# Altium schematic symbol library TI Stellaris.SchLib: 293 symbols (part 3 of 7)
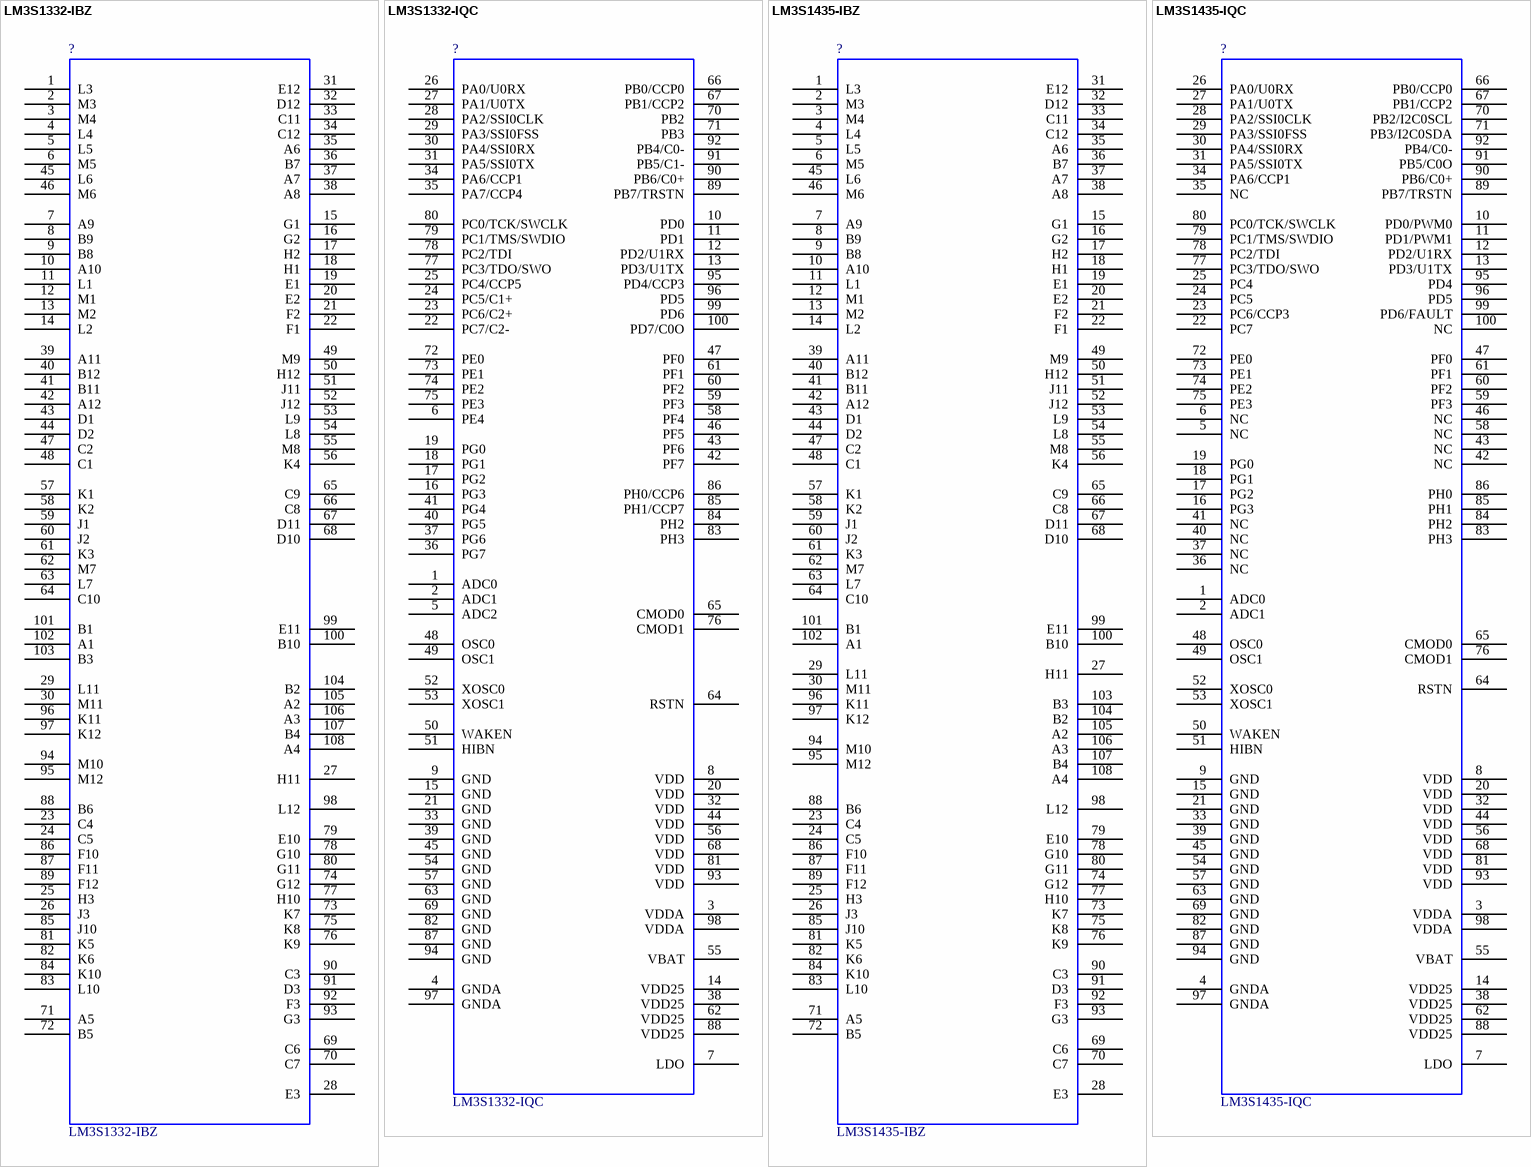
[diagram p71: symbols LM3S1332-IBZ to LM3S1435-IQC]

## LM3S1332-IBZ
designator ?  Comment_1: LM3S1332-IBZ  (hidden comment: *)
Stellaris ARM Cortex-M3 Microcontroller; Manufacturer #1: Luminary Micro; LMI Class: Fury; Designator: U; Part Number: LM3S1332-IBZ
footprint BGA108C80P12X12_1000X1000X150
pins: 1 L3, 2 M3, 3 M4, 4 L4, 5 L5, 6 M5, 7 A9, 8 B9, 9 B8, 10 A10, 11 L1, 12 M1, 13 M2, 14 L2, 15 G1, 16 G2, 17 H2, 18 H1, 19 E1, 20 E2, 21 F2, 22 F1, 23 C4, 24 C5, 25 H3, 26 J3, 27 H11, 28 E3, 29 L11, 30 M11, 31 E12, 32 D12, 33 C11, 34 C12, 35 A6, 36 B7, 37 A7, 38 A8, 39 A11, 40 B12, 41 B11, 42 A12, 43 D1, 44 D2, 45 L6, 46 M6, 47 C2, 48 C1, 49 M9, 50 H12, 51 J11, 52 J12, 53 L9, 54 L8, 55 M8, 56 K4, 57 K1, 58 K2, 59 J1, 60 J2, 61 K3, 62 M7, 63 L7, 64 C10, 65 C9, 66 C8, 67 D11, 68 D10, 69 C6, 70 C7, 71 A5, 72 B5, 73 K7, 74 G12, 75 K8, 76 K9, 77 H10, 78 G10, 79 E10, 80 G11, 81 K5, 82 K6, 83 L10, 84 K10, 85 J10, 86 F10, 87 F11, 88 B6, 89 F12, 90 C3, 91 D3, 92 F3, 93 G3, 94 M10, 95 M12, 96 K11, 97 K12, 98 L12, 99 E11, 100 B10, 101 B1, 102 A1, 103 B3, 104 B2, 105 A2, 106 A3, 107 B4, 108 A4

## LM3S1332-IQC
designator ?  Comment_1: LM3S1332-IQC  (hidden comment: *)
Stellaris ARM Cortex-M3 Microcontroller; Manufacturer #1: Luminary Micro; LMI Class: Fury; Designator: U; Part Number: LM3S1332-IQC
footprint QFP50P1600X1600X160-100N
pins: 1 ADC0, 2 ADC1, 3 VDDA, 4 GNDA, 5 ADC2, 6 PE4, 7 LDO, 8 VDD, 9 GND, 10 PD0, 11 PD1, 12 PD2/U1RX, 13 PD3/U1TX, 14 VDD25, 15 GND, 16 PG3, 17 PG2, 18 PG1, 19 PG0, 20 VDD, 21 GND, 22 PC7/C2-, 23 PC6/C2+, 24 PC5/C1+, 25 PC4/CCP5, 26 PA0/U0RX, 27 PA1/U0TX, 28 PA2/SSI0CLK, 29 PA3/SSI0FSS, 30 PA4/SSI0RX, 31 PA5/SSI0TX, 32 VDD, 33 GND, 34 PA6/CCP1, 35 PA7/CCP4, 36 PG7, 37 PG6, 38 VDD25, 39 GND, 40 PG5, 41 PG4, 42 PF7, 43 PF6, 44 VDD, 45 GND, 46 PF5, 47 PF0, 48 OSC0, 49 OSC1, 50 WAKEN, 51 HIBN, 52 XOSC0, 53 XOSC1, 54 GND, 55 VBAT, 56 VDD, 57 GND, 58 PF4, 59 PF3, 60 PF2, 61 PF1, 62 VDD25, 63 GND, 64 RSTN, 65 CMOD0, 66 PB0/CCP0, 67 PB1/CCP2, 68 VDD, 69 GND, 70 PB2, 71 PB3, 72 PE0, 73 PE1, 74 PE2, 75 PE3, 76 CMOD1, 77 PC3/TDO/SWO, 78 PC2/TDI, 79 PC1/TMS/SWDIO, 80 PC0/TCK/SWCLK, 81 VDD, 82 GND, 83 PH3, 84 PH2, 85 PH1/CCP7, 86 PH0/CCP6, 87 GND, 88 VDD25, 89 PB7/TRSTN, 90 PB6/C0+, 91 PB5/C1-, 92 PB4/C0-, 93 VDD, 94 GND, 95 PD4/CCP3, 96 PD5, 97 GNDA, 98 VDDA, 99 PD6, 100 PD7/C0O

## LM3S1435-IBZ
designator ?  Comment_1: LM3S1435-IBZ  (hidden comment: *)
Stellaris ARM Cortex-M3 Microcontroller; Manufacturer #1: Luminary Micro; LMI Class: Fury; Designator: U; Part Number: LM3S1435-IBZ
footprint BGA108C80P12X12_1000X1000X150
pins: 1 L3, 2 M3, 3 M4, 4 L4, 5 L5, 6 M5, 7 A9, 8 B9, 9 B8, 10 A10, 11 L1, 12 M1, 13 M2, 14 L2, 15 G1, 16 G2, 17 H2, 18 H1, 19 E1, 20 E2, 21 F2, 22 F1, 23 C4, 24 C5, 25 H3, 26 J3, 27 H11, 28 E3, 29 L11, 30 M11, 31 E12, 32 D12, 33 C11, 34 C12, 35 A6, 36 B7, 37 A7, 38 A8, 39 A11, 40 B12, 41 B11, 42 A12, 43 D1, 44 D2, 45 L6, 46 M6, 47 C2, 48 C1, 49 M9, 50 H12, 51 J11, 52 J12, 53 L9, 54 L8, 55 M8, 56 K4, 57 K1, 58 K2, 59 J1, 60 J2, 61 K3, 62 M7, 63 L7, 64 C10, 65 C9, 66 C8, 67 D11, 68 D10, 69 C6, 70 C7, 71 A5, 72 B5, 73 K7, 74 G12, 75 K8, 76 K9, 77 H10, 78 G10, 79 E10, 80 G11, 81 K5, 82 K6, 83 L10, 84 K10, 85 J10, 86 F10, 87 F11, 88 B6, 89 F12, 90 C3, 91 D3, 92 F3, 93 G3, 94 M10, 95 M12, 96 K11, 97 K12, 98 L12, 99 E11, 100 B10, 101 B1, 102 A1, 103 B3, 104 B2, 105 A2, 106 A3, 107 B4, 108 A4

## LM3S1435-IQC
designator ?  Comment_1: LM3S1435-IQC  (hidden comment: *)
Stellaris ARM Cortex-M3 Microcontroller; Manufacturer #1: Luminary Micro; LMI Class: Fury; Designator: U; Part Number: LM3S1435-IQC
footprint QFP50P1600X1600X160-100N
pins: 1 ADC0, 2 ADC1, 3 VDDA, 4 GNDA, 5 NC, 6 NC, 7 LDO, 8 VDD, 9 GND, 10 PD0/PWM0, 11 PD1/PWM1, 12 PD2/U1RX, 13 PD3/U1TX, 14 VDD25, 15 GND, 16 PG3, 17 PG2, 18 PG1, 19 PG0, 20 VDD, 21 GND, 22 PC7, 23 PC6/CCP3, 24 PC5, 25 PC4, 26 PA0/U0RX, 27 PA1/U0TX, 28 PA2/SSI0CLK, 29 PA3/SSI0FSS, 30 PA4/SSI0RX, 31 PA5/SSI0TX, 32 VDD, 33 GND, 34 PA6/CCP1, 35 NC, 36 NC, 37 NC, 38 VDD25, 39 GND, 40 NC, 41 NC, 42 NC, 43 NC, 44 VDD, 45 GND, 46 NC, 47 PF0, 48 OSC0, 49 OSC1, 50 WAKEN, 51 HIBN, 52 XOSC0, 53 XOSC1, 54 GND, 55 VBAT, 56 VDD, 57 GND, 58 NC, 59 PF3, 60 PF2, 61 PF1, 62 VDD25, 63 GND, 64 RSTN, 65 CMOD0, 66 PB0/CCP0, 67 PB1/CCP2, 68 VDD, 69 GND, 70 PB2/I2C0SCL, 71 PB3/I2C0SDA, 72 PE0, 73 PE1, 74 PE2, 75 PE3, 76 CMOD1, 77 PC3/TDO/SWO, 78 PC2/TDI, 79 PC1/TMS/SWDIO, 80 PC0/TCK/SWCLK, 81 VDD, 82 GND, 83 PH3, 84 PH2, 85 PH1, 86 PH0, 87 GND, 88 VDD25, 89 PB7/TRSTN, 90 PB6/C0+, 91 PB5/C0O, 92 PB4/C0-, 93 VDD, 94 GND, 95 PD4, 96 PD5, 97 GNDA, 98 VDDA, 99 PD6/FAULT, 100 NC

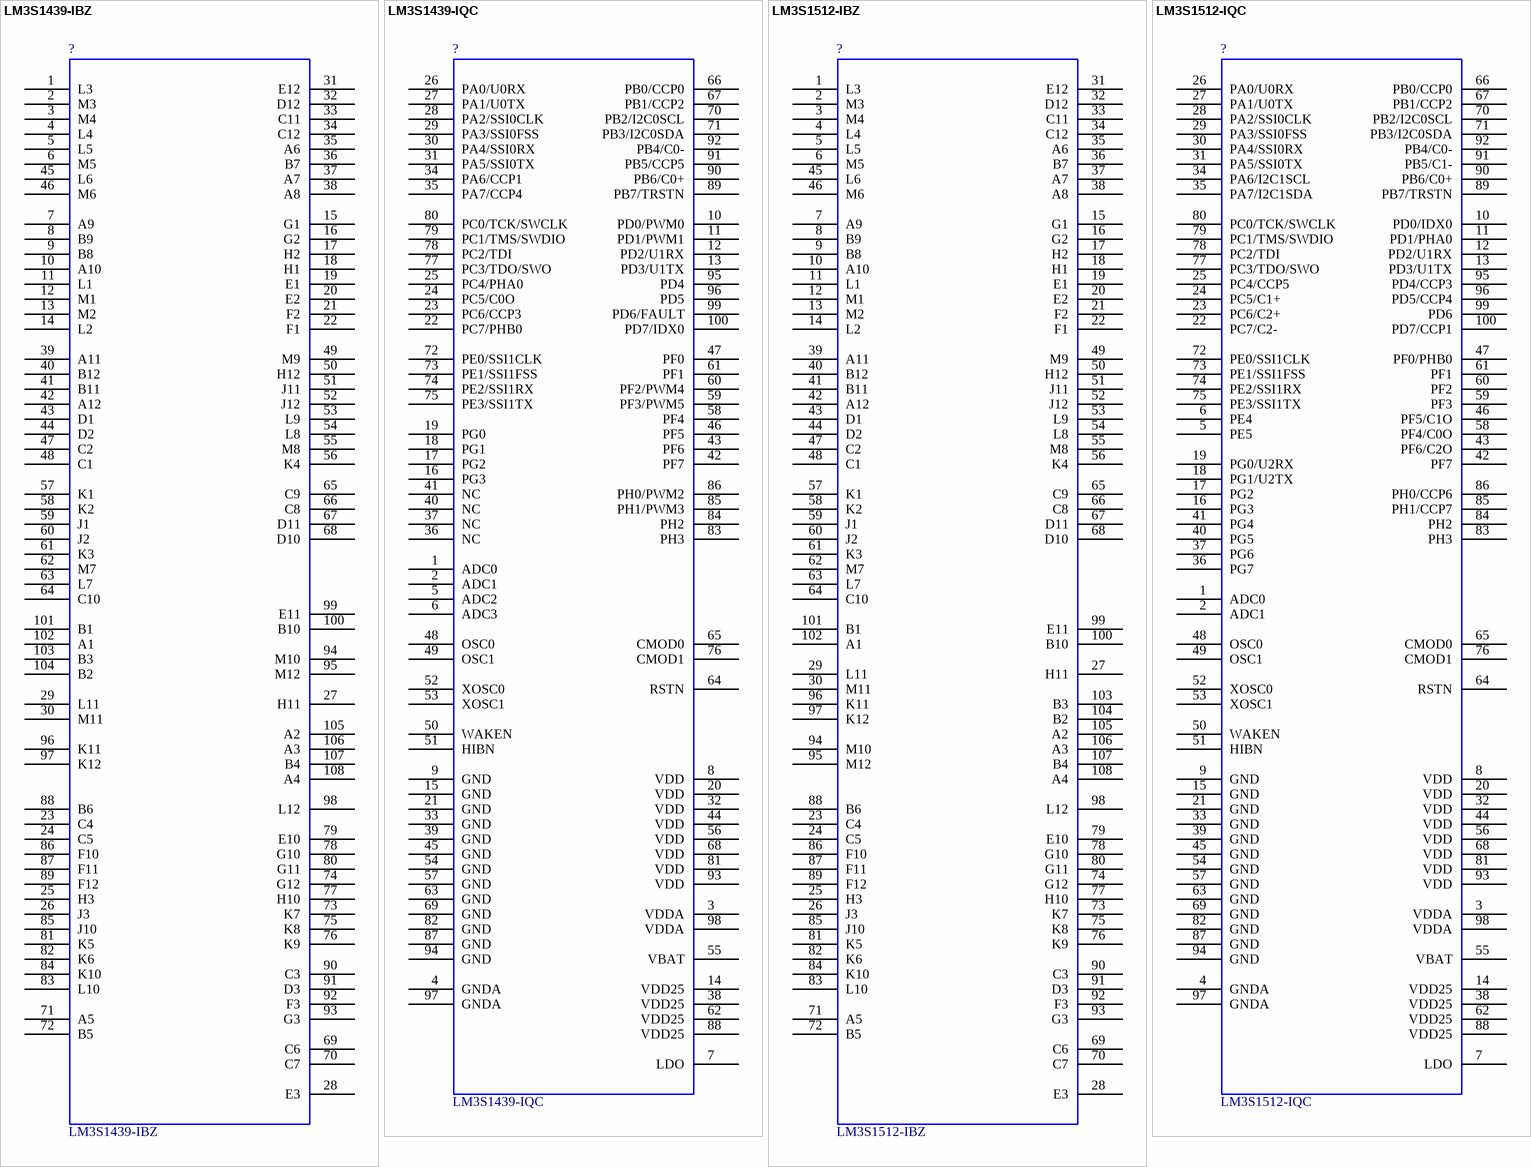
[diagram p23: symbols LM3S1439-IBZ to LM3S1512-IQC]

## LM3S1439-IBZ
designator ?  Comment_1: LM3S1439-IBZ  (hidden comment: *)
Stellaris ARM Cortex-M3 Microcontroller; Manufacturer #1: Luminary Micro; LMI Class: Fury; Designator: U; Part Number: LM3S1439-IBZ
footprint BGA108C80P12X12_1000X1000X150
pins: 1 L3, 2 M3, 3 M4, 4 L4, 5 L5, 6 M5, 7 A9, 8 B9, 9 B8, 10 A10, 11 L1, 12 M1, 13 M2, 14 L2, 15 G1, 16 G2, 17 H2, 18 H1, 19 E1, 20 E2, 21 F2, 22 F1, 23 C4, 24 C5, 25 H3, 26 J3, 27 H11, 28 E3, 29 L11, 30 M11, 31 E12, 32 D12, 33 C11, 34 C12, 35 A6, 36 B7, 37 A7, 38 A8, 39 A11, 40 B12, 41 B11, 42 A12, 43 D1, 44 D2, 45 L6, 46 M6, 47 C2, 48 C1, 49 M9, 50 H12, 51 J11, 52 J12, 53 L9, 54 L8, 55 M8, 56 K4, 57 K1, 58 K2, 59 J1, 60 J2, 61 K3, 62 M7, 63 L7, 64 C10, 65 C9, 66 C8, 67 D11, 68 D10, 69 C6, 70 C7, 71 A5, 72 B5, 73 K7, 74 G12, 75 K8, 76 K9, 77 H10, 78 G10, 79 E10, 80 G11, 81 K5, 82 K6, 83 L10, 84 K10, 85 J10, 86 F10, 87 F11, 88 B6, 89 F12, 90 C3, 91 D3, 92 F3, 93 G3, 94 M10, 95 M12, 96 K11, 97 K12, 98 L12, 99 E11, 100 B10, 101 B1, 102 A1, 103 B3, 104 B2, 105 A2, 106 A3, 107 B4, 108 A4

## LM3S1439-IQC
designator ?  Comment_1: LM3S1439-IQC  (hidden comment: *)
Stellaris ARM Cortex-M3 Microcontroller; Manufacturer #1: Luminary Micro; LMI Class: Fury; Designator: U; Part Number: LM3S1439-IQC
footprint QFP50P1600X1600X160-100N
pins: 1 ADC0, 2 ADC1, 3 VDDA, 4 GNDA, 5 ADC2, 6 ADC3, 7 LDO, 8 VDD, 9 GND, 10 PD0/PWM0, 11 PD1/PWM1, 12 PD2/U1RX, 13 PD3/U1TX, 14 VDD25, 15 GND, 16 PG3, 17 PG2, 18 PG1, 19 PG0, 20 VDD, 21 GND, 22 PC7/PHB0, 23 PC6/CCP3, 24 PC5/C0O, 25 PC4/PHA0, 26 PA0/U0RX, 27 PA1/U0TX, 28 PA2/SSI0CLK, 29 PA3/SSI0FSS, 30 PA4/SSI0RX, 31 PA5/SSI0TX, 32 VDD, 33 GND, 34 PA6/CCP1, 35 PA7/CCP4, 36 NC, 37 NC, 38 VDD25, 39 GND, 40 NC, 41 NC, 42 PF7, 43 PF6, 44 VDD, 45 GND, 46 PF5, 47 PF0, 48 OSC0, 49 OSC1, 50 WAKEN, 51 HIBN, 52 XOSC0, 53 XOSC1, 54 GND, 55 VBAT, 56 VDD, 57 GND, 58 PF4, 59 PF3/PWM5, 60 PF2/PWM4, 61 PF1, 62 VDD25, 63 GND, 64 RSTN, 65 CMOD0, 66 PB0/CCP0, 67 PB1/CCP2, 68 VDD, 69 GND, 70 PB2/I2C0SCL, 71 PB3/I2C0SDA, 72 PE0/SSI1CLK, 73 PE1/SSI1FSS, 74 PE2/SSI1RX, 75 PE3/SSI1TX, 76 CMOD1, 77 PC3/TDO/SWO, 78 PC2/TDI, 79 PC1/TMS/SWDIO, 80 PC0/TCK/SWCLK, 81 VDD, 82 GND, 83 PH3, 84 PH2, 85 PH1/PWM3, 86 PH0/PWM2, 87 GND, 88 VDD25, 89 PB7/TRSTN, 90 PB6/C0+, 91 PB5/CCP5, 92 PB4/C0-, 93 VDD, 94 GND, 95 PD4, 96 PD5, 97 GNDA, 98 VDDA, 99 PD6/FAULT, 100 PD7/IDX0

## LM3S1512-IBZ
designator ?  Comment_1: LM3S1512-IBZ  (hidden comment: *)
Stellaris ARM Cortex-M3 Microcontroller; Manufacturer #1: Luminary Micro; LMI Class: Fury; Designator: U; Part Number: LM3S1512-IBZ
footprint BGA108C80P12X12_1000X1000X150
pins: 1 L3, 2 M3, 3 M4, 4 L4, 5 L5, 6 M5, 7 A9, 8 B9, 9 B8, 10 A10, 11 L1, 12 M1, 13 M2, 14 L2, 15 G1, 16 G2, 17 H2, 18 H1, 19 E1, 20 E2, 21 F2, 22 F1, 23 C4, 24 C5, 25 H3, 26 J3, 27 H11, 28 E3, 29 L11, 30 M11, 31 E12, 32 D12, 33 C11, 34 C12, 35 A6, 36 B7, 37 A7, 38 A8, 39 A11, 40 B12, 41 B11, 42 A12, 43 D1, 44 D2, 45 L6, 46 M6, 47 C2, 48 C1, 49 M9, 50 H12, 51 J11, 52 J12, 53 L9, 54 L8, 55 M8, 56 K4, 57 K1, 58 K2, 59 J1, 60 J2, 61 K3, 62 M7, 63 L7, 64 C10, 65 C9, 66 C8, 67 D11, 68 D10, 69 C6, 70 C7, 71 A5, 72 B5, 73 K7, 74 G12, 75 K8, 76 K9, 77 H10, 78 G10, 79 E10, 80 G11, 81 K5, 82 K6, 83 L10, 84 K10, 85 J10, 86 F10, 87 F11, 88 B6, 89 F12, 90 C3, 91 D3, 92 F3, 93 G3, 94 M10, 95 M12, 96 K11, 97 K12, 98 L12, 99 E11, 100 B10, 101 B1, 102 A1, 103 B3, 104 B2, 105 A2, 106 A3, 107 B4, 108 A4

## LM3S1512-IQC
designator ?  Comment_1: LM3S1512-IQC  (hidden comment: *)
Stellaris ARM Cortex-M3 Microcontroller; Manufacturer #1: Luminary Micro; LMI Class: Fury; Designator: U; Part Number: LM3S1512-IQC
footprint QFP50P1600X1600X160-100N
pins: 1 ADC0, 2 ADC1, 3 VDDA, 4 GNDA, 5 PE5, 6 PE4, 7 LDO, 8 VDD, 9 GND, 10 PD0/IDX0, 11 PD1/PHA0, 12 PD2/U1RX, 13 PD3/U1TX, 14 VDD25, 15 GND, 16 PG3, 17 PG2, 18 PG1/U2TX, 19 PG0/U2RX, 20 VDD, 21 GND, 22 PC7/C2-, 23 PC6/C2+, 24 PC5/C1+, 25 PC4/CCP5, 26 PA0/U0RX, 27 PA1/U0TX, 28 PA2/SSI0CLK, 29 PA3/SSI0FSS, 30 PA4/SSI0RX, 31 PA5/SSI0TX, 32 VDD, 33 GND, 34 PA6/I2C1SCL, 35 PA7/I2C1SDA, 36 PG7, 37 PG6, 38 VDD25, 39 GND, 40 PG5, 41 PG4, 42 PF7, 43 PF6/C2O, 44 VDD, 45 GND, 46 PF5/C1O, 47 PF0/PHB0, 48 OSC0, 49 OSC1, 50 WAKEN, 51 HIBN, 52 XOSC0, 53 XOSC1, 54 GND, 55 VBAT, 56 VDD, 57 GND, 58 PF4/C0O, 59 PF3, 60 PF2, 61 PF1, 62 VDD25, 63 GND, 64 RSTN, 65 CMOD0, 66 PB0/CCP0, 67 PB1/CCP2, 68 VDD, 69 GND, 70 PB2/I2C0SCL, 71 PB3/I2C0SDA, 72 PE0/SSI1CLK, 73 PE1/SSI1FSS, 74 PE2/SSI1RX, 75 PE3/SSI1TX, 76 CMOD1, 77 PC3/TDO/SWO, 78 PC2/TDI, 79 PC1/TMS/SWDIO, 80 PC0/TCK/SWCLK, 81 VDD, 82 GND, 83 PH3, 84 PH2, 85 PH1/CCP7, 86 PH0/CCP6, 87 GND, 88 VDD25, 89 PB7/TRSTN, 90 PB6/C0+, 91 PB5/C1-, 92 PB4/C0-, 93 VDD, 94 GND, 95 PD4/CCP3, 96 PD5/CCP4, 97 GNDA, 98 VDDA, 99 PD6, 100 PD7/CCP1

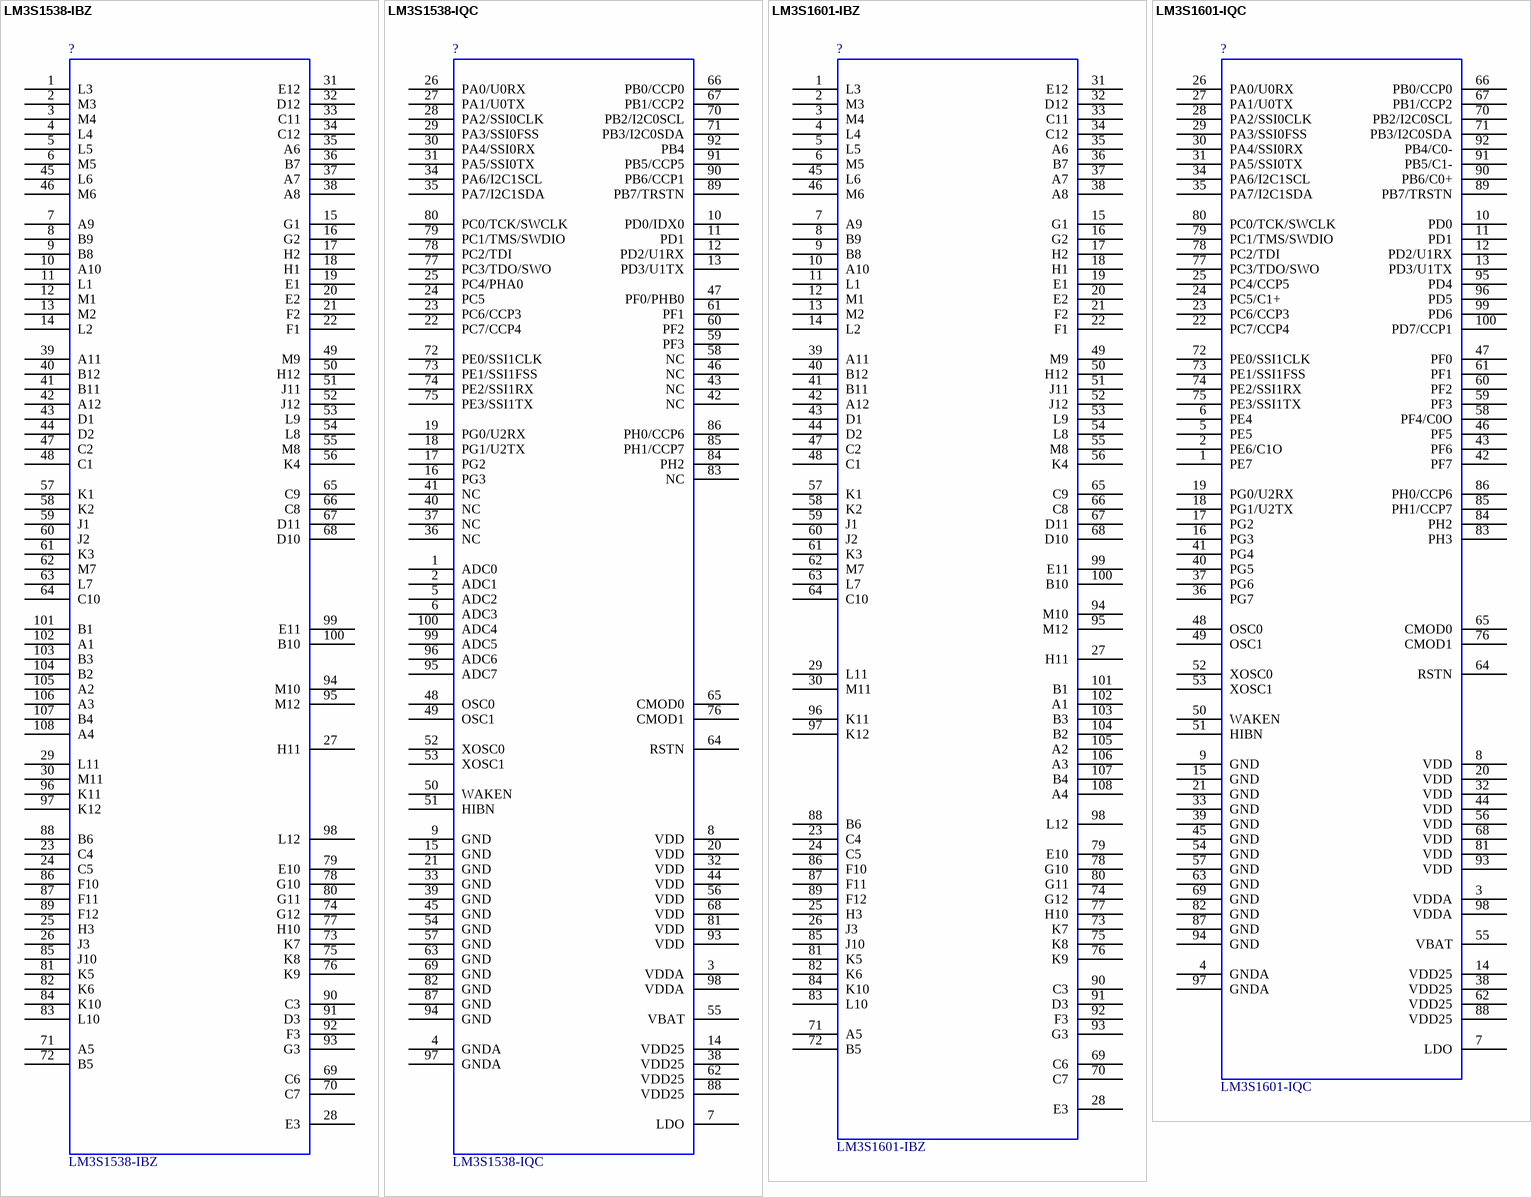
[diagram p24: symbols LM3S1538-IBZ to LM3S1601-IQC]

## LM3S1538-IBZ
designator ?  Comment_1: LM3S1538-IBZ  (hidden comment: *)
Stellaris ARM Cortex-M3 Microcontroller; Manufacturer #1: Luminary Micro; LMI Class: Fury; Designator: U; Part Number: LM3S1538-IBZ
footprint BGA108C80P12X12_1000X1000X150
pins: 1 L3, 2 M3, 3 M4, 4 L4, 5 L5, 6 M5, 7 A9, 8 B9, 9 B8, 10 A10, 11 L1, 12 M1, 13 M2, 14 L2, 15 G1, 16 G2, 17 H2, 18 H1, 19 E1, 20 E2, 21 F2, 22 F1, 23 C4, 24 C5, 25 H3, 26 J3, 27 H11, 28 E3, 29 L11, 30 M11, 31 E12, 32 D12, 33 C11, 34 C12, 35 A6, 36 B7, 37 A7, 38 A8, 39 A11, 40 B12, 41 B11, 42 A12, 43 D1, 44 D2, 45 L6, 46 M6, 47 C2, 48 C1, 49 M9, 50 H12, 51 J11, 52 J12, 53 L9, 54 L8, 55 M8, 56 K4, 57 K1, 58 K2, 59 J1, 60 J2, 61 K3, 62 M7, 63 L7, 64 C10, 65 C9, 66 C8, 67 D11, 68 D10, 69 C6, 70 C7, 71 A5, 72 B5, 73 K7, 74 G12, 75 K8, 76 K9, 77 H10, 78 G10, 79 E10, 80 G11, 81 K5, 82 K6, 83 L10, 84 K10, 85 J10, 86 F10, 87 F11, 88 B6, 89 F12, 90 C3, 91 D3, 92 F3, 93 G3, 94 M10, 95 M12, 96 K11, 97 K12, 98 L12, 99 E11, 100 B10, 101 B1, 102 A1, 103 B3, 104 B2, 105 A2, 106 A3, 107 B4, 108 A4

## LM3S1538-IQC
designator ?  Comment_1: LM3S1538-IQC  (hidden comment: *)
Stellaris ARM Cortex-M3 Microcontroller; Manufacturer #1: Luminary Micro; LMI Class: Fury; Designator: U; Part Number: LM3S1538-IQC
footprint QFP50P1600X1600X160-100N
pins: 1 ADC0, 2 ADC1, 3 VDDA, 4 GNDA, 5 ADC2, 6 ADC3, 7 LDO, 8 VDD, 9 GND, 10 PD0/IDX0, 11 PD1, 12 PD2/U1RX, 13 PD3/U1TX, 14 VDD25, 15 GND, 16 PG3, 17 PG2, 18 PG1/U2TX, 19 PG0/U2RX, 20 VDD, 21 GND, 22 PC7/CCP4, 23 PC6/CCP3, 24 PC5, 25 PC4/PHA0, 26 PA0/U0RX, 27 PA1/U0TX, 28 PA2/SSI0CLK, 29 PA3/SSI0FSS, 30 PA4/SSI0RX, 31 PA5/SSI0TX, 32 VDD, 33 GND, 34 PA6/I2C1SCL, 35 PA7/I2C1SDA, 36 NC, 37 NC, 38 VDD25, 39 GND, 40 NC, 41 NC, 42 NC, 43 NC, 44 VDD, 45 GND, 46 NC, 47 PF0/PHB0, 48 OSC0, 49 OSC1, 50 WAKEN, 51 HIBN, 52 XOSC0, 53 XOSC1, 54 GND, 55 VBAT, 56 VDD, 57 GND, 58 NC, 59 PF3, 60 PF2, 61 PF1, 62 VDD25, 63 GND, 64 RSTN, 65 CMOD0, 66 PB0/CCP0, 67 PB1/CCP2, 68 VDD, 69 GND, 70 PB2/I2C0SCL, 71 PB3/I2C0SDA, 72 PE0/SSI1CLK, 73 PE1/SSI1FSS, 74 PE2/SSI1RX, 75 PE3/SSI1TX, 76 CMOD1, 77 PC3/TDO/SWO, 78 PC2/TDI, 79 PC1/TMS/SWDIO, 80 PC0/TCK/SWCLK, 81 VDD, 82 GND, 83 NC, 84 PH2, 85 PH1/CCP7, 86 PH0/CCP6, 87 GND, 88 VDD25, 89 PB7/TRSTN, 90 PB6/CCP1, 91 PB5/CCP5, 92 PB4, 93 VDD, 94 GND, 95 ADC7, 96 ADC6, 97 GNDA, 98 VDDA, 99 ADC5, 100 ADC4

## LM3S1601-IBZ
designator ?  Comment_1: LM3S1601-IBZ  (hidden comment: *)
Stellaris ARM Cortex-M3 Microcontroller; Manufacturer #1: Luminary Micro; LMI Class: Fury; Designator: U; Part Number: LM3S1601-IBZ
footprint BGA108C80P12X12_1000X1000X150
pins: 1 L3, 2 M3, 3 M4, 4 L4, 5 L5, 6 M5, 7 A9, 8 B9, 9 B8, 10 A10, 11 L1, 12 M1, 13 M2, 14 L2, 15 G1, 16 G2, 17 H2, 18 H1, 19 E1, 20 E2, 21 F2, 22 F1, 23 C4, 24 C5, 25 H3, 26 J3, 27 H11, 28 E3, 29 L11, 30 M11, 31 E12, 32 D12, 33 C11, 34 C12, 35 A6, 36 B7, 37 A7, 38 A8, 39 A11, 40 B12, 41 B11, 42 A12, 43 D1, 44 D2, 45 L6, 46 M6, 47 C2, 48 C1, 49 M9, 50 H12, 51 J11, 52 J12, 53 L9, 54 L8, 55 M8, 56 K4, 57 K1, 58 K2, 59 J1, 60 J2, 61 K3, 62 M7, 63 L7, 64 C10, 65 C9, 66 C8, 67 D11, 68 D10, 69 C6, 70 C7, 71 A5, 72 B5, 73 K7, 74 G12, 75 K8, 76 K9, 77 H10, 78 G10, 79 E10, 80 G11, 81 K5, 82 K6, 83 L10, 84 K10, 85 J10, 86 F10, 87 F11, 88 B6, 89 F12, 90 C3, 91 D3, 92 F3, 93 G3, 94 M10, 95 M12, 96 K11, 97 K12, 98 L12, 99 E11, 100 B10, 101 B1, 102 A1, 103 B3, 104 B2, 105 A2, 106 A3, 107 B4, 108 A4

## LM3S1601-IQC
designator ?  Comment_1: LM3S1601-IQC  (hidden comment: *)
Stellaris ARM Cortex-M3 Microcontroller; Manufacturer #1: Luminary Micro; LMI Class: Fury; Designator: U; Part Number: LM3S1601-IQC
footprint QFP50P1600X1600X160-100N
pins: 1 PE7, 2 PE6/C1O, 3 VDDA, 4 GNDA, 5 PE5, 6 PE4, 7 LDO, 8 VDD, 9 GND, 10 PD0, 11 PD1, 12 PD2/U1RX, 13 PD3/U1TX, 14 VDD25, 15 GND, 16 PG3, 17 PG2, 18 PG1/U2TX, 19 PG0/U2RX, 20 VDD, 21 GND, 22 PC7/CCP4, 23 PC6/CCP3, 24 PC5/C1+, 25 PC4/CCP5, 26 PA0/U0RX, 27 PA1/U0TX, 28 PA2/SSI0CLK, 29 PA3/SSI0FSS, 30 PA4/SSI0RX, 31 PA5/SSI0TX, 32 VDD, 33 GND, 34 PA6/I2C1SCL, 35 PA7/I2C1SDA, 36 PG7, 37 PG6, 38 VDD25, 39 GND, 40 PG5, 41 PG4, 42 PF7, 43 PF6, 44 VDD, 45 GND, 46 PF5, 47 PF0, 48 OSC0, 49 OSC1, 50 WAKEN, 51 HIBN, 52 XOSC0, 53 XOSC1, 54 GND, 55 VBAT, 56 VDD, 57 GND, 58 PF4/C0O, 59 PF3, 60 PF2, 61 PF1, 62 VDD25, 63 GND, 64 RSTN, 65 CMOD0, 66 PB0/CCP0, 67 PB1/CCP2, 68 VDD, 69 GND, 70 PB2/I2C0SCL, 71 PB3/I2C0SDA, 72 PE0/SSI1CLK, 73 PE1/SSI1FSS, 74 PE2/SSI1RX, 75 PE3/SSI1TX, 76 CMOD1, 77 PC3/TDO/SWO, 78 PC2/TDI, 79 PC1/TMS/SWDIO, 80 PC0/TCK/SWCLK, 81 VDD, 82 GND, 83 PH3, 84 PH2, 85 PH1/CCP7, 86 PH0/CCP6, 87 GND, 88 VDD25, 89 PB7/TRSTN, 90 PB6/C0+, 91 PB5/C1-, 92 PB4/C0-, 93 VDD, 94 GND, 95 PD4, 96 PD5, 97 GNDA, 98 VDDA, 99 PD6, 100 PD7/CCP1

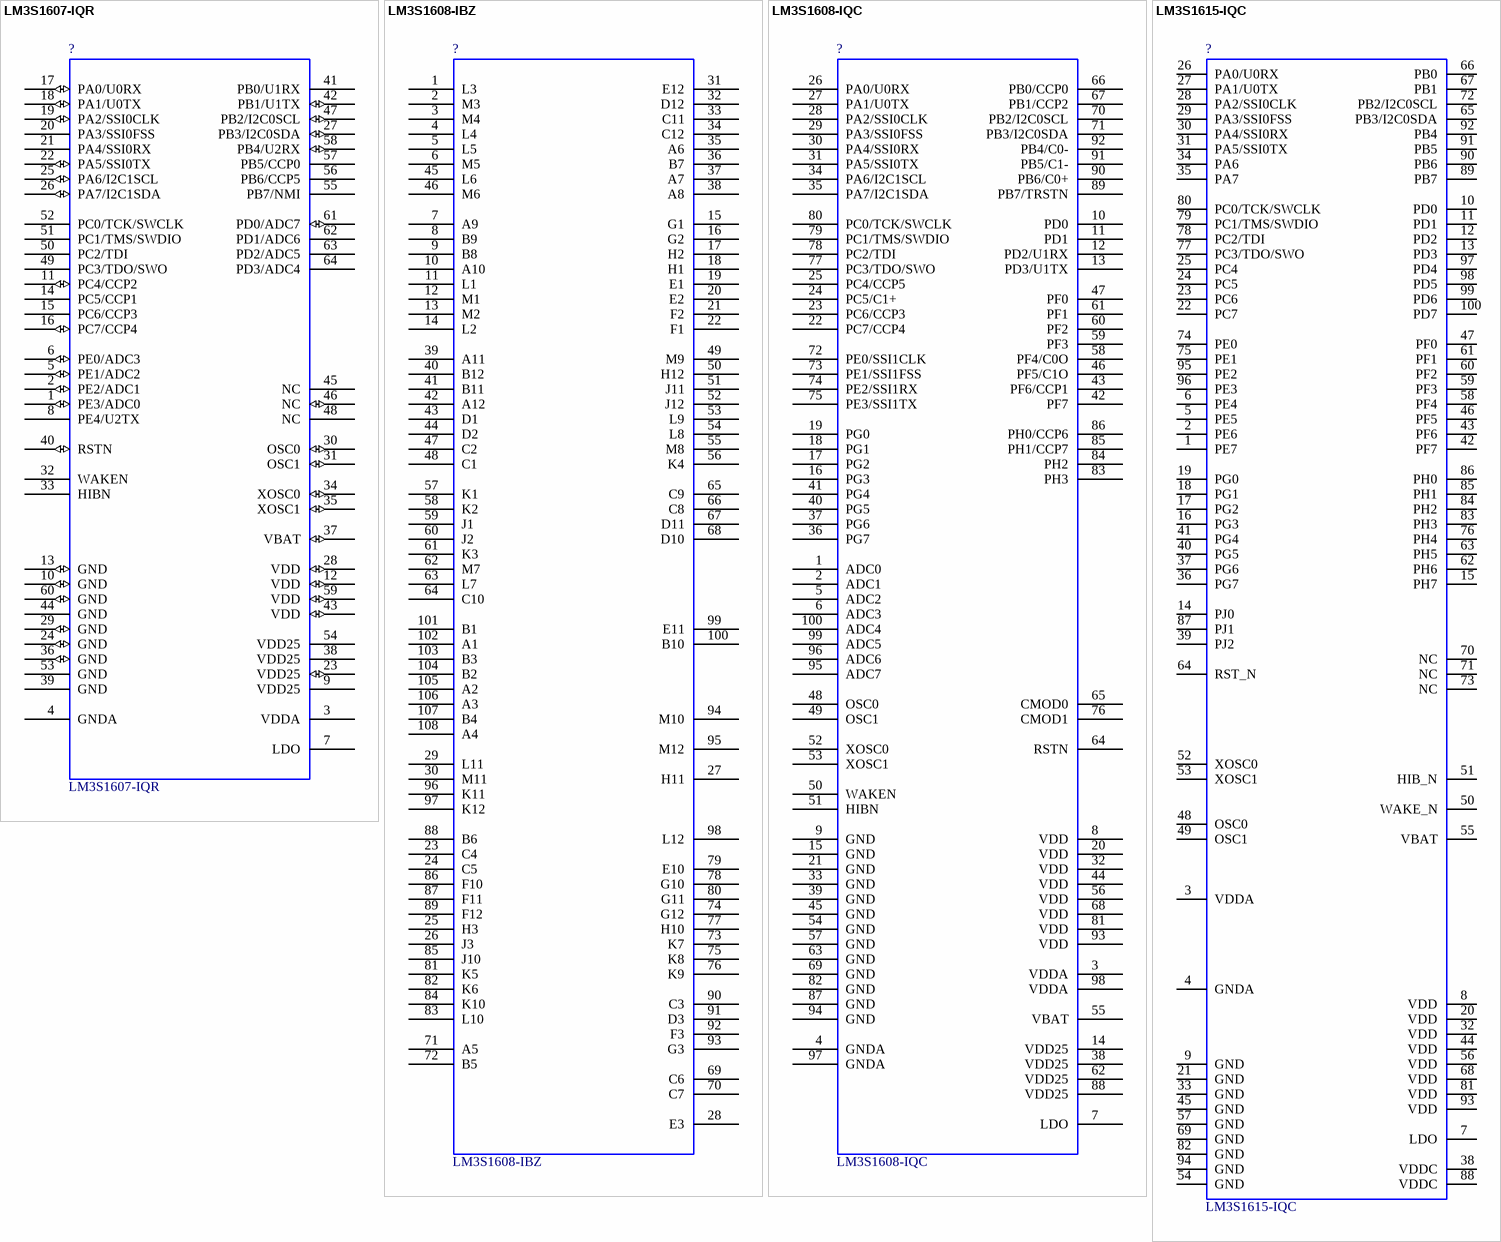
[diagram p25: symbols LM3S1607-IQR to LM3S1615-IQC]

## LM3S1607-IQR
designator ?  Comment_1: LM3S1607-IQR  (hidden comment: *)
Stellaris ARM Cortex-M3 Microcontroller; Manufacturer #1: Luminary Micro; LMI Class: Dust Devil; Designator: U; Part Number: LM3S1607-IQR
footprint QFP50P1200X1200X160-64N
pins: 1 PE3/ADC0 (io), 2 PE2/ADC1 (io), 3 VDDA (power), 4 GNDA (power), 5 PE1/ADC2 (io), 6 PE0/ADC3 (io), 7 LDO, 8 PE4/U2TX (power), 9 VDD25 (power), 10 GND (io), 11 PC4/CCP2 (io), 12 VDD (io), 13 GND (io), 14 PC5/CCP1 (power), 15 PC6/CCP3 (power), 16 PC7/CCP4 (io), 17 PA0/U0RX (io), 18 PA1/U0TX (io), 19 PA2/SSI0CLK (io), 20 PA3/SSI0FSS (power), 21 PA4/SSI0RX (power), 22 PA5/SSI0TX (io), 23 VDD25 (io), 24 GND (io), 25 PA6/I2C1SCL (io), 26 PA7/I2C1SDA (io), 27 PB3/I2C0SDA (io), 28 VDD (io), 29 GND (io), 30 OSC0 (io), 31 OSC1 (io), 32 WAKEN (power), 33 HIBN (power), 34 XOSC0 (io), 35 XOSC1 (io), 36 GND (io), 37 VBAT (io), 38 VDD25 (power), 39 GND (power), 40 RSTN (io), 41 PB0/U1RX, 42 PB1/U1TX (io), 43 VDD (io), 44 GND (power), 45 NC (power), 46 NC (io), 47 PB2/I2C0SCL (io), 48 NC, 49 PC3/TDO/SWO, 50 PC2/TDI, 51 PC1/TMS/SWDIO, 52 PC0/TCK/SWCLK, 53 GND, 54 VDD25 (power), 55 PB7/NMI (power), 56 PB6/CCP5 (power), 57 PB5/CCP0 (power), 58 PB4/U2RX (io), 59 VDD (io), 60 GND (io), 61 PD0/ADC7 (io), 62 PD1/ADC6 (power), 63 PD2/ADC5 (power), 64 PD3/ADC4

## LM3S1608-IBZ
designator ?  Comment_1: LM3S1608-IBZ  (hidden comment: *)
Stellaris ARM Cortex-M3 Microcontroller; Manufacturer #1: Luminary Micro; LMI Class: Fury; Designator: U; Part Number: LM3S1608-IBZ
footprint BGA108C80P12X12_1000X1000X150
pins: 1 L3, 2 M3, 3 M4, 4 L4, 5 L5, 6 M5, 7 A9, 8 B9, 9 B8, 10 A10, 11 L1, 12 M1, 13 M2, 14 L2, 15 G1, 16 G2, 17 H2, 18 H1, 19 E1, 20 E2, 21 F2, 22 F1, 23 C4, 24 C5, 25 H3, 26 J3, 27 H11, 28 E3, 29 L11, 30 M11, 31 E12, 32 D12, 33 C11, 34 C12, 35 A6, 36 B7, 37 A7, 38 A8, 39 A11, 40 B12, 41 B11, 42 A12, 43 D1, 44 D2, 45 L6, 46 M6, 47 C2, 48 C1, 49 M9, 50 H12, 51 J11, 52 J12, 53 L9, 54 L8, 55 M8, 56 K4, 57 K1, 58 K2, 59 J1, 60 J2, 61 K3, 62 M7, 63 L7, 64 C10, 65 C9, 66 C8, 67 D11, 68 D10, 69 C6, 70 C7, 71 A5, 72 B5, 73 K7, 74 G12, 75 K8, 76 K9, 77 H10, 78 G10, 79 E10, 80 G11, 81 K5, 82 K6, 83 L10, 84 K10, 85 J10, 86 F10, 87 F11, 88 B6, 89 F12, 90 C3, 91 D3, 92 F3, 93 G3, 94 M10, 95 M12, 96 K11, 97 K12, 98 L12, 99 E11, 100 B10, 101 B1, 102 A1, 103 B3, 104 B2, 105 A2, 106 A3, 107 B4, 108 A4

## LM3S1608-IQC
designator ?  Comment_1: LM3S1608-IQC  (hidden comment: *)
Stellaris ARM Cortex-M3 Microcontroller; Manufacturer #1: Luminary Micro; LMI Class: Fury; Designator: U; Part Number: LM3S1608-IQC
footprint QFP50P1600X1600X160-100N
pins: 1 ADC0, 2 ADC1, 3 VDDA, 4 GNDA, 5 ADC2, 6 ADC3, 7 LDO, 8 VDD, 9 GND, 10 PD0, 11 PD1, 12 PD2/U1RX, 13 PD3/U1TX, 14 VDD25, 15 GND, 16 PG3, 17 PG2, 18 PG1, 19 PG0, 20 VDD, 21 GND, 22 PC7/CCP4, 23 PC6/CCP3, 24 PC5/C1+, 25 PC4/CCP5, 26 PA0/U0RX, 27 PA1/U0TX, 28 PA2/SSI0CLK, 29 PA3/SSI0FSS, 30 PA4/SSI0RX, 31 PA5/SSI0TX, 32 VDD, 33 GND, 34 PA6/I2C1SCL, 35 PA7/I2C1SDA, 36 PG7, 37 PG6, 38 VDD25, 39 GND, 40 PG5, 41 PG4, 42 PF7, 43 PF6/CCP1, 44 VDD, 45 GND, 46 PF5/C1O, 47 PF0, 48 OSC0, 49 OSC1, 50 WAKEN, 51 HIBN, 52 XOSC0, 53 XOSC1, 54 GND, 55 VBAT, 56 VDD, 57 GND, 58 PF4/C0O, 59 PF3, 60 PF2, 61 PF1, 62 VDD25, 63 GND, 64 RSTN, 65 CMOD0, 66 PB0/CCP0, 67 PB1/CCP2, 68 VDD, 69 GND, 70 PB2/I2C0SCL, 71 PB3/I2C0SDA, 72 PE0/SSI1CLK, 73 PE1/SSI1FSS, 74 PE2/SSI1RX, 75 PE3/SSI1TX, 76 CMOD1, 77 PC3/TDO/SWO, 78 PC2/TDI, 79 PC1/TMS/SWDIO, 80 PC0/TCK/SWCLK, 81 VDD, 82 GND, 83 PH3, 84 PH2, 85 PH1/CCP7, 86 PH0/CCP6, 87 GND, 88 VDD25, 89 PB7/TRSTN, 90 PB6/C0+, 91 PB5/C1-, 92 PB4/C0-, 93 VDD, 94 GND, 95 ADC7, 96 ADC6, 97 GNDA, 98 VDDA, 99 ADC5, 100 ADC4

## LM3S1615-IQC
designator ?
Stellaris ARM Cortex-M3 Microcontroller; Manufacturer #1: Texas Instruments; Stellaris Class: Tempest; Part Number: LM3S1615-IQC
footprint QFP50P1600X1600X160-100N
pins: 1 PE7, 2 PE6, 3 VDDA, 4 GNDA, 5 PE5, 6 PE4, 7 LDO, 8 VDD, 9 GND, 10 PD0, 11 PD1, 12 PD2, 13 PD3, 14 PJ0, 15 PH7, 16 PG3, 17 PG2, 18 PG1, 19 PG0, 20 VDD, 21 GND, 22 PC7, 23 PC6, 24 PC5, 25 PC4, 26 PA0/U0RX, 27 PA1/U0TX, 28 PA2/SSI0CLK, 29 PA3/SSI0FSS, 30 PA4/SSI0RX, 31 PA5/SSI0TX, 32 VDD, 33 GND, 34 PA6, 35 PA7, 36 PG7, 37 PG6, 38 VDDC, 39 PJ2, 40 PG5, 41 PG4, 42 PF7, 43 PF6, 44 VDD, 45 GND, 46 PF5, 47 PF0, 48 OSC0, 49 OSC1, 50 WAKE_N, 51 HIB_N, 52 XOSC0, 53 XOSC1, 54 GND, 55 VBAT, 56 VDD, 57 GND, 58 PF4, 59 PF3, 60 PF2, 61 PF1, 62 PH6, 63 PH5, 64 RST_N, 65 PB3/I2C0SDA, 66 PB0, 67 PB1, 68 VDD, 69 GND, 70 NC, 71 NC, 72 PB2/I2C0SCL, 73 NC, 74 PE0, 75 PE1, 76 PH4, 77 PC3/TDO/SWO, 78 PC2/TDI, 79 PC1/TMS/SWDIO, 80 PC0/TCK/SWCLK, 81 VDD, 82 GND, 83 PH3, 84 PH2, 85 PH1, 86 PH0, 87 PJ1, 88 VDDC, 89 PB7, 90 PB6, 91 PB5, 92 PB4, 93 VDD, 94 GND, 95 PE2, 96 PE3, 97 PD4, 98 PD5, 99 PD6, 100 PD7

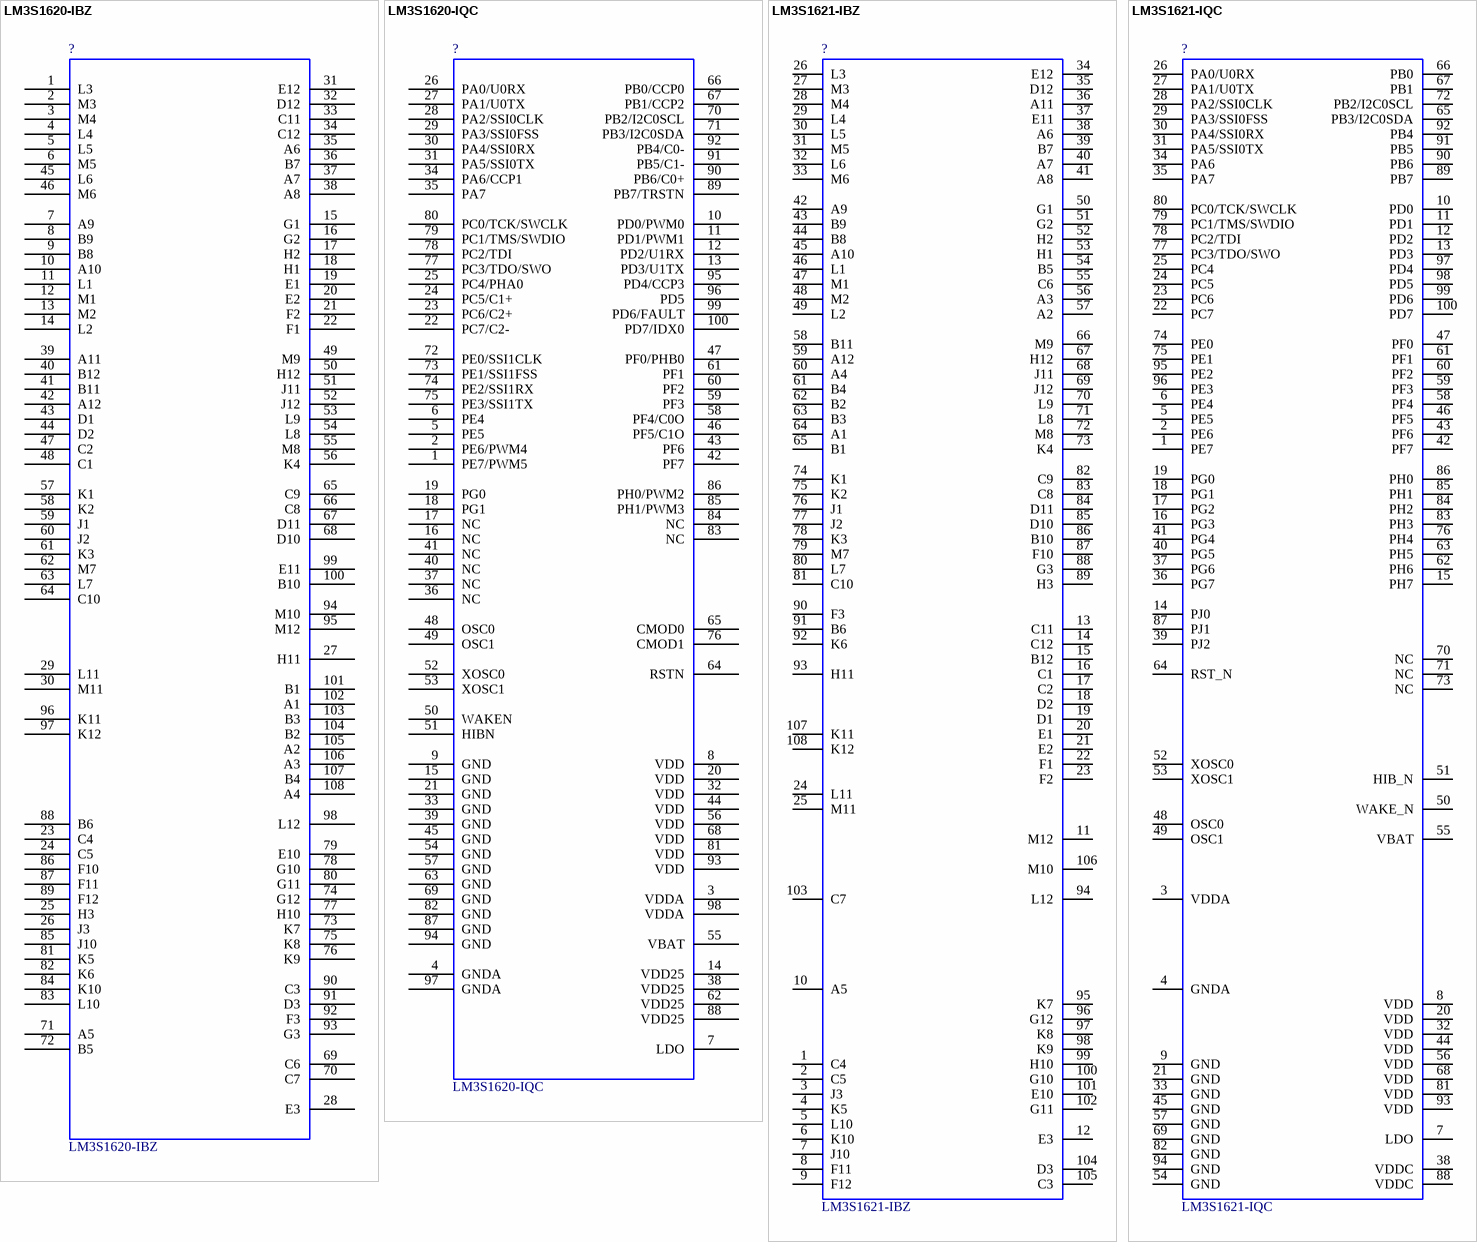
[diagram p26: symbols LM3S1620-IBZ to LM3S1621-IQC]

## LM3S1620-IBZ
designator ?  Comment_1: LM3S1620-IBZ  (hidden comment: *)
Stellaris ARM Cortex-M3 Microcontroller; Manufacturer #1: Luminary Micro; LMI Class: Fury; Designator: U; Part Number: LM3S1620-IBZ
footprint BGA108C80P12X12_1000X1000X150
pins: 1 L3, 2 M3, 3 M4, 4 L4, 5 L5, 6 M5, 7 A9, 8 B9, 9 B8, 10 A10, 11 L1, 12 M1, 13 M2, 14 L2, 15 G1, 16 G2, 17 H2, 18 H1, 19 E1, 20 E2, 21 F2, 22 F1, 23 C4, 24 C5, 25 H3, 26 J3, 27 H11, 28 E3, 29 L11, 30 M11, 31 E12, 32 D12, 33 C11, 34 C12, 35 A6, 36 B7, 37 A7, 38 A8, 39 A11, 40 B12, 41 B11, 42 A12, 43 D1, 44 D2, 45 L6, 46 M6, 47 C2, 48 C1, 49 M9, 50 H12, 51 J11, 52 J12, 53 L9, 54 L8, 55 M8, 56 K4, 57 K1, 58 K2, 59 J1, 60 J2, 61 K3, 62 M7, 63 L7, 64 C10, 65 C9, 66 C8, 67 D11, 68 D10, 69 C6, 70 C7, 71 A5, 72 B5, 73 K7, 74 G12, 75 K8, 76 K9, 77 H10, 78 G10, 79 E10, 80 G11, 81 K5, 82 K6, 83 L10, 84 K10, 85 J10, 86 F10, 87 F11, 88 B6, 89 F12, 90 C3, 91 D3, 92 F3, 93 G3, 94 M10, 95 M12, 96 K11, 97 K12, 98 L12, 99 E11, 100 B10, 101 B1, 102 A1, 103 B3, 104 B2, 105 A2, 106 A3, 107 B4, 108 A4

## LM3S1620-IQC
designator ?  Comment_1: LM3S1620-IQC  (hidden comment: *)
Stellaris ARM Cortex-M3 Microcontroller; Manufacturer #1: Luminary Micro; LMI Class: Fury; Designator: U; Part Number: LM3S1620-IQC
footprint QFP50P1600X1600X160-100N
pins: 1 PE7/PWM5, 2 PE6/PWM4, 3 VDDA, 4 GNDA, 5 PE5, 6 PE4, 7 LDO, 8 VDD, 9 GND, 10 PD0/PWM0, 11 PD1/PWM1, 12 PD2/U1RX, 13 PD3/U1TX, 14 VDD25, 15 GND, 16 NC, 17 NC, 18 PG1, 19 PG0, 20 VDD, 21 GND, 22 PC7/C2-, 23 PC6/C2+, 24 PC5/C1+, 25 PC4/PHA0, 26 PA0/U0RX, 27 PA1/U0TX, 28 PA2/SSI0CLK, 29 PA3/SSI0FSS, 30 PA4/SSI0RX, 31 PA5/SSI0TX, 32 VDD, 33 GND, 34 PA6/CCP1, 35 PA7, 36 NC, 37 NC, 38 VDD25, 39 GND, 40 NC, 41 NC, 42 PF7, 43 PF6, 44 VDD, 45 GND, 46 PF5/C1O, 47 PF0/PHB0, 48 OSC0, 49 OSC1, 50 WAKEN, 51 HIBN, 52 XOSC0, 53 XOSC1, 54 GND, 55 VBAT, 56 VDD, 57 GND, 58 PF4/C0O, 59 PF3, 60 PF2, 61 PF1, 62 VDD25, 63 GND, 64 RSTN, 65 CMOD0, 66 PB0/CCP0, 67 PB1/CCP2, 68 VDD, 69 GND, 70 PB2/I2C0SCL, 71 PB3/I2C0SDA, 72 PE0/SSI1CLK, 73 PE1/SSI1FSS, 74 PE2/SSI1RX, 75 PE3/SSI1TX, 76 CMOD1, 77 PC3/TDO/SWO, 78 PC2/TDI, 79 PC1/TMS/SWDIO, 80 PC0/TCK/SWCLK, 81 VDD, 82 GND, 83 NC, 84 NC, 85 PH1/PWM3, 86 PH0/PWM2, 87 GND, 88 VDD25, 89 PB7/TRSTN, 90 PB6/C0+, 91 PB5/C1-, 92 PB4/C0-, 93 VDD, 94 GND, 95 PD4/CCP3, 96 PD5, 97 GNDA, 98 VDDA, 99 PD6/FAULT, 100 PD7/IDX0

## LM3S1621-IBZ
designator ?
Stellaris ARM Cortex-M3 Microcontroller; Manufacturer #1: Texas Instruments; Stellaris Class: Tempest; Part Number: LM3S1621-IBZ
footprint BGA108C80P12X12_1000X1000X150
pins: 1 C4, 2 C5, 3 J3, 4 K5, 5 L10, 6 K10, 7 J10, 8 F11, 9 F12, 10 A5, 11 M12, 12 E3, 13 C11, 14 C12, 15 B12, 16 C1, 17 C2, 18 D2, 19 D1, 20 E1, 21 E2, 22 F1, 23 F2, 24 L11, 25 M11, 26 L3, 27 M3, 28 M4, 29 L4, 30 L5, 31 M5, 32 L6, 33 M6, 34 E12, 35 D12, 36 A11, 37 E11, 38 A6, 39 B7, 40 A7, 41 A8, 42 A9, 43 B9, 44 B8, 45 A10, 46 L1, 47 M1, 48 M2, 49 L2, 50 G1, 51 G2, 52 H2, 53 H1, 54 B5, 55 C6, 56 A3, 57 A2, 58 B11, 59 A12, 60 A4, 61 B4, 62 B2, 63 B3, 64 A1, 65 B1, 66 M9, 67 H12, 68 J11, 69 J12, 70 L9, 71 L8, 72 M8, 73 K4, 74 K1, 75 K2, 76 J1, 77 J2, 78 K3, 79 M7, 80 L7, 81 C10, 82 C9, 83 C8, 84 D11, 85 D10, 86 B10, 87 F10, 88 G3, 89 H3, 90 F3, 91 B6, 92 K6, 93 H11, 94 L12, 95 K7, 96 G12, 97 K8, 98 K9, 99 H10, 100 G10, 101 E10, 102 G11, 103 C7, 104 D3, 105 C3, 106 M10, 107 K11, 108 K12

## LM3S1621-IQC
designator ?
Stellaris ARM Cortex-M3 Microcontroller; Manufacturer #1: Texas Instruments; Part Number: LM3S1621-IQZ; Stellaris Class: Tempest
footprint QFP50P1600X1600X160-100N
pins: 1 PE7, 2 PE6, 3 VDDA, 4 GNDA, 5 PE5, 6 PE4, 7 LDO, 8 VDD, 9 GND, 10 PD0, 11 PD1, 12 PD2, 13 PD3, 14 PJ0, 15 PH7, 16 PG3, 17 PG2, 18 PG1, 19 PG0, 20 VDD, 21 GND, 22 PC7, 23 PC6, 24 PC5, 25 PC4, 26 PA0/U0RX, 27 PA1/U0TX, 28 PA2/SSI0CLK, 29 PA3/SSI0FSS, 30 PA4/SSI0RX, 31 PA5/SSI0TX, 32 VDD, 33 GND, 34 PA6, 35 PA7, 36 PG7, 37 PG6, 38 VDDC, 39 PJ2, 40 PG5, 41 PG4, 42 PF7, 43 PF6, 44 VDD, 45 GND, 46 PF5, 47 PF0, 48 OSC0, 49 OSC1, 50 WAKE_N, 51 HIB_N, 52 XOSC0, 53 XOSC1, 54 GND, 55 VBAT, 56 VDD, 57 GND, 58 PF4, 59 PF3, 60 PF2, 61 PF1, 62 PH6, 63 PH5, 64 RST_N, 65 PB3/I2C0SDA, 66 PB0, 67 PB1, 68 VDD, 69 GND, 70 NC, 71 NC, 72 PB2/I2C0SCL, 73 NC, 74 PE0, 75 PE1, 76 PH4, 77 PC3/TDO/SWO, 78 PC2/TDI, 79 PC1/TMS/SWDIO, 80 PC0/TCK/SWCLK, 81 VDD, 82 GND, 83 PH3, 84 PH2, 85 PH1, 86 PH0, 87 PJ1, 88 VDDC, 89 PB7, 90 PB6, 91 PB5, 92 PB4, 93 VDD, 94 GND, 95 PE2, 96 PE3, 97 PD4, 98 PD5, 99 PD6, 100 PD7

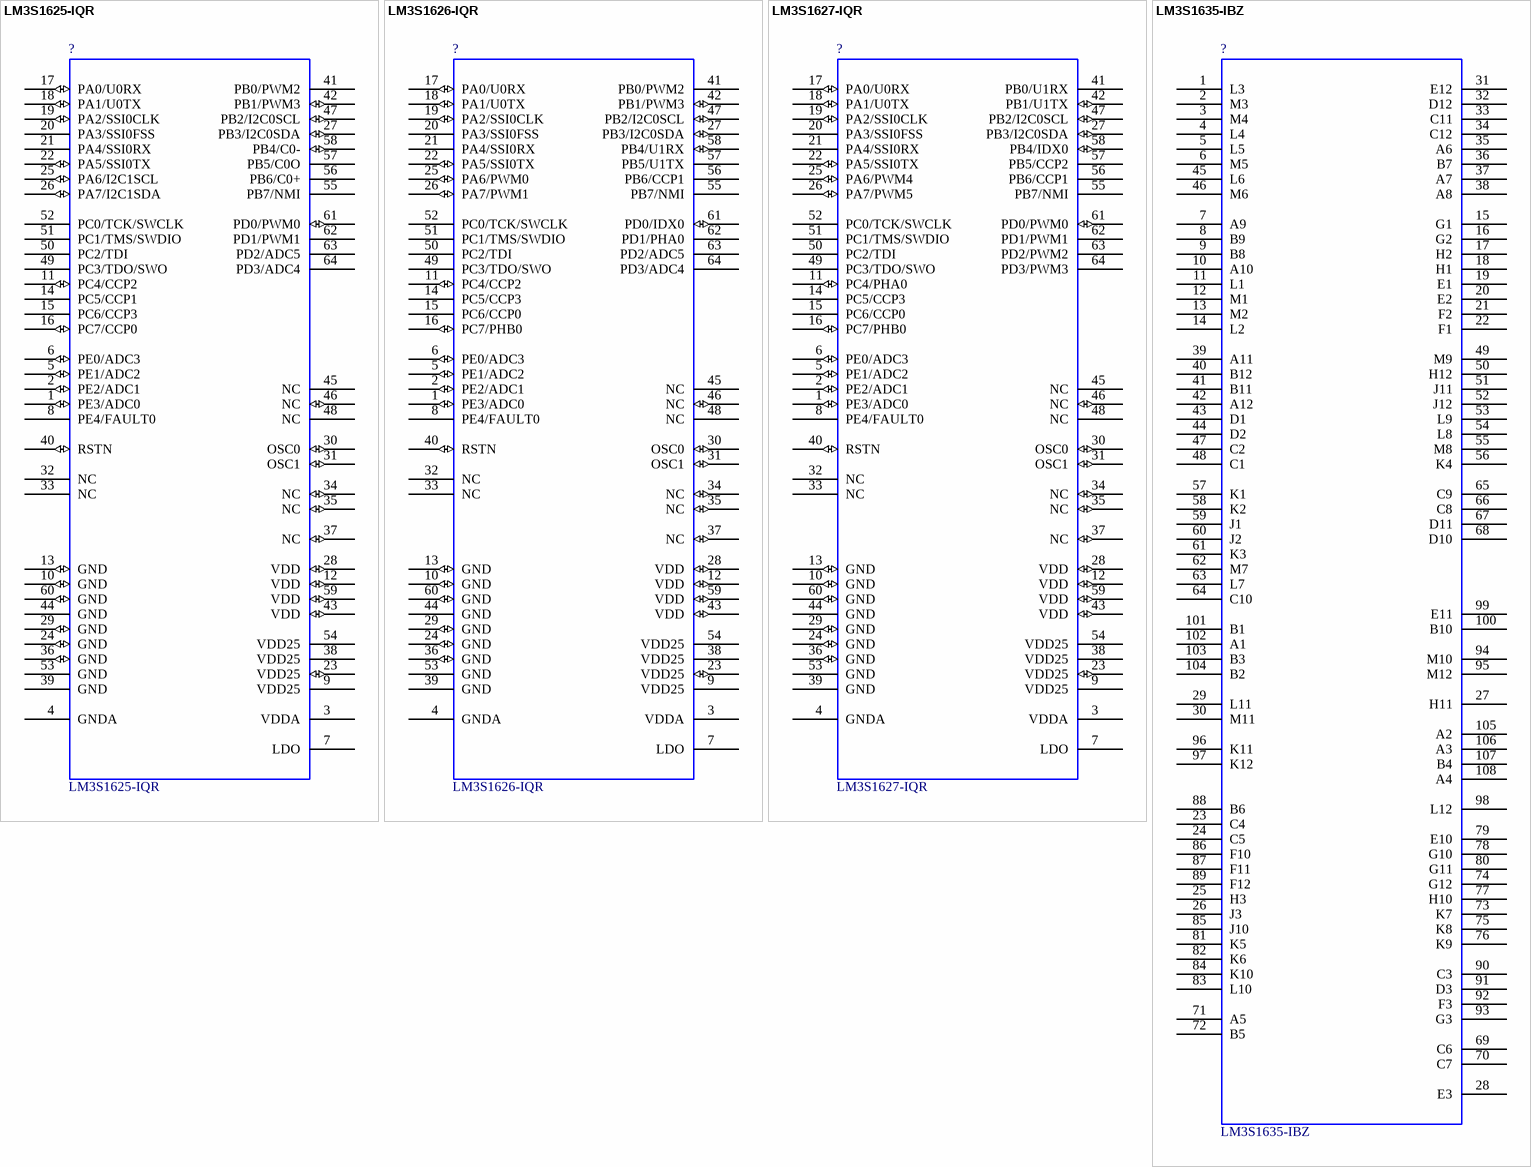
[diagram p27: symbols LM3S1625-IQR to LM3S1635-IBZ]

## LM3S1625-IQR
designator ?  Comment_1: LM3S1625-IQR  (hidden comment: *)
Stellaris ARM Cortex-M3 Microcontroller; Manufacturer #1: Luminary Micro; LMI Class: Dust Devil; Designator: U; Part Number: LM3S1625-IQR
footprint QFP50P1200X1200X160-64N
pins: 1 PE3/ADC0 (io), 2 PE2/ADC1 (io), 3 VDDA (power), 4 GNDA (power), 5 PE1/ADC2 (io), 6 PE0/ADC3 (io), 7 LDO, 8 PE4/FAULT0 (power), 9 VDD25 (power), 10 GND (io), 11 PC4/CCP2 (io), 12 VDD (io), 13 GND (io), 14 PC5/CCP1 (power), 15 PC6/CCP3 (power), 16 PC7/CCP0 (io), 17 PA0/U0RX (io), 18 PA1/U0TX (io), 19 PA2/SSI0CLK (io), 20 PA3/SSI0FSS (power), 21 PA4/SSI0RX (power), 22 PA5/SSI0TX (io), 23 VDD25 (io), 24 GND (io), 25 PA6/I2C1SCL (io), 26 PA7/I2C1SDA (io), 27 PB3/I2C0SDA (io), 28 VDD (io), 29 GND (io), 30 OSC0 (io), 31 OSC1 (io), 32 NC (power), 33 NC (power), 34 NC (io), 35 NC (io), 36 GND (io), 37 NC (io), 38 VDD25 (power), 39 GND (power), 40 RSTN (io), 41 PB0/PWM2, 42 PB1/PWM3 (io), 43 VDD (io), 44 GND (power), 45 NC (power), 46 NC (io), 47 PB2/I2C0SCL (io), 48 NC, 49 PC3/TDO/SWO, 50 PC2/TDI, 51 PC1/TMS/SWDIO, 52 PC0/TCK/SWCLK, 53 GND, 54 VDD25 (power), 55 PB7/NMI (power), 56 PB6/C0+ (power), 57 PB5/C0O (power), 58 PB4/C0- (io), 59 VDD (io), 60 GND (io), 61 PD0/PWM0 (io), 62 PD1/PWM1 (power), 63 PD2/ADC5 (power), 64 PD3/ADC4

## LM3S1626-IQR
designator ?  Comment_1: LM3S1626-IQR  (hidden comment: *)
Stellaris ARM Cortex-M3 Microcontroller; Manufacturer #1: Luminary Micro; LMI Class: Dust Devil; Designator: U; Part Number: LM3S1626-IQR
footprint QFP50P1200X1200X160-64N
pins: 1 PE3/ADC0 (io), 2 PE2/ADC1 (io), 3 VDDA (power), 4 GNDA (power), 5 PE1/ADC2 (io), 6 PE0/ADC3 (io), 7 LDO, 8 PE4/FAULT0 (power), 9 VDD25 (power), 10 GND (io), 11 PC4/CCP2 (io), 12 VDD (io), 13 GND (io), 14 PC5/CCP3 (power), 15 PC6/CCP0 (power), 16 PC7/PHB0 (io), 17 PA0/U0RX (io), 18 PA1/U0TX (io), 19 PA2/SSI0CLK (io), 20 PA3/SSI0FSS (power), 21 PA4/SSI0RX (power), 22 PA5/SSI0TX (io), 23 VDD25 (io), 24 GND (io), 25 PA6/PWM0 (io), 26 PA7/PWM1 (io), 27 PB3/I2C0SDA (io), 28 VDD (io), 29 GND (io), 30 OSC0 (io), 31 OSC1 (io), 32 NC (power), 33 NC (power), 34 NC (io), 35 NC (io), 36 GND (io), 37 NC (io), 38 VDD25 (power), 39 GND (power), 40 RSTN (io), 41 PB0/PWM2, 42 PB1/PWM3 (io), 43 VDD (io), 44 GND (power), 45 NC (power), 46 NC (io), 47 PB2/I2C0SCL (io), 48 NC, 49 PC3/TDO/SWO, 50 PC2/TDI, 51 PC1/TMS/SWDIO, 52 PC0/TCK/SWCLK, 53 GND, 54 VDD25 (power), 55 PB7/NMI (power), 56 PB6/CCP1 (power), 57 PB5/U1TX (power), 58 PB4/U1RX (io), 59 VDD (io), 60 GND (io), 61 PD0/IDX0 (io), 62 PD1/PHA0 (power), 63 PD2/ADC5 (power), 64 PD3/ADC4

## LM3S1627-IQR
designator ?  Comment_1: LM3S1627-IQR  (hidden comment: *)
Stellaris ARM Cortex-M3 Microcontroller; Manufacturer #1: Luminary Micro; LMI Class: Dust Devil; Designator: U; Part Number: LM3S1627-IQR
footprint QFP50P1200X1200X160-64N
pins: 1 PE3/ADC0 (io), 2 PE2/ADC1 (io), 3 VDDA (power), 4 GNDA (power), 5 PE1/ADC2 (io), 6 PE0/ADC3 (io), 7 LDO, 8 PE4/FAULT0 (power), 9 VDD25 (power), 10 GND (io), 11 PC4/PHA0 (io), 12 VDD (io), 13 GND (io), 14 PC5/CCP3 (power), 15 PC6/CCP0 (power), 16 PC7/PHB0 (io), 17 PA0/U0RX (io), 18 PA1/U0TX (io), 19 PA2/SSI0CLK (io), 20 PA3/SSI0FSS (power), 21 PA4/SSI0RX (power), 22 PA5/SSI0TX (io), 23 VDD25 (io), 24 GND (io), 25 PA6/PWM4 (io), 26 PA7/PWM5 (io), 27 PB3/I2C0SDA (io), 28 VDD (io), 29 GND (io), 30 OSC0 (io), 31 OSC1 (io), 32 NC (power), 33 NC (power), 34 NC (io), 35 NC (io), 36 GND (io), 37 NC (io), 38 VDD25 (power), 39 GND (power), 40 RSTN (io), 41 PB0/U1RX, 42 PB1/U1TX (io), 43 VDD (io), 44 GND (power), 45 NC (power), 46 NC (io), 47 PB2/I2C0SCL (io), 48 NC, 49 PC3/TDO/SWO, 50 PC2/TDI, 51 PC1/TMS/SWDIO, 52 PC0/TCK/SWCLK, 53 GND, 54 VDD25 (power), 55 PB7/NMI (power), 56 PB6/CCP1 (power), 57 PB5/CCP2 (power), 58 PB4/IDX0 (io), 59 VDD (io), 60 GND (io), 61 PD0/PWM0 (io), 62 PD1/PWM1 (power), 63 PD2/PWM2 (power), 64 PD3/PWM3

## LM3S1635-IBZ
designator ?  Comment_1: LM3S1635-IBZ  (hidden comment: *)
Stellaris ARM Cortex-M3 Microcontroller; Manufacturer #1: Luminary Micro; LMI Class: Fury; Designator: U; Part Number: LM3S1635-IBZ
footprint BGA108C80P12X12_1000X1000X150
pins: 1 L3, 2 M3, 3 M4, 4 L4, 5 L5, 6 M5, 7 A9, 8 B9, 9 B8, 10 A10, 11 L1, 12 M1, 13 M2, 14 L2, 15 G1, 16 G2, 17 H2, 18 H1, 19 E1, 20 E2, 21 F2, 22 F1, 23 C4, 24 C5, 25 H3, 26 J3, 27 H11, 28 E3, 29 L11, 30 M11, 31 E12, 32 D12, 33 C11, 34 C12, 35 A6, 36 B7, 37 A7, 38 A8, 39 A11, 40 B12, 41 B11, 42 A12, 43 D1, 44 D2, 45 L6, 46 M6, 47 C2, 48 C1, 49 M9, 50 H12, 51 J11, 52 J12, 53 L9, 54 L8, 55 M8, 56 K4, 57 K1, 58 K2, 59 J1, 60 J2, 61 K3, 62 M7, 63 L7, 64 C10, 65 C9, 66 C8, 67 D11, 68 D10, 69 C6, 70 C7, 71 A5, 72 B5, 73 K7, 74 G12, 75 K8, 76 K9, 77 H10, 78 G10, 79 E10, 80 G11, 81 K5, 82 K6, 83 L10, 84 K10, 85 J10, 86 F10, 87 F11, 88 B6, 89 F12, 90 C3, 91 D3, 92 F3, 93 G3, 94 M10, 95 M12, 96 K11, 97 K12, 98 L12, 99 E11, 100 B10, 101 B1, 102 A1, 103 B3, 104 B2, 105 A2, 106 A3, 107 B4, 108 A4

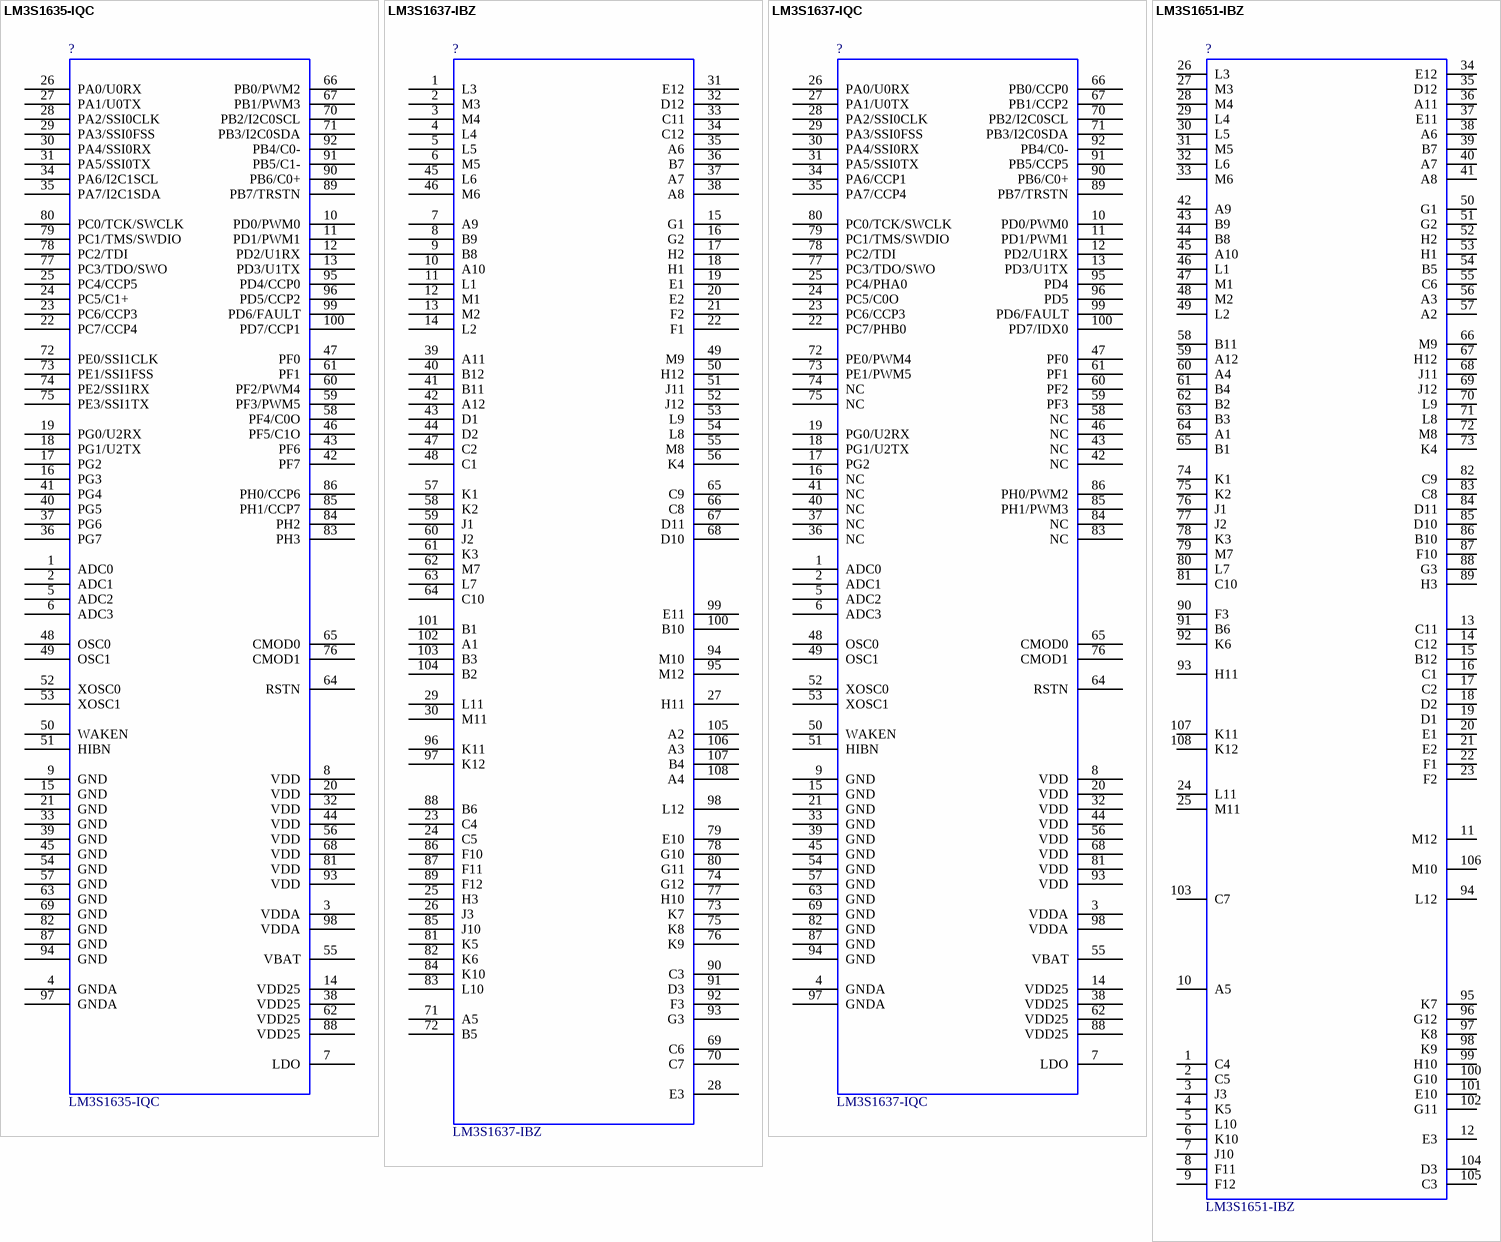
[diagram p28: symbols LM3S1635-IQC to LM3S1651-IBZ]

## LM3S1635-IQC
designator ?  Comment_1: LM3S1635-IQC  (hidden comment: *)
Stellaris ARM Cortex-M3 Microcontroller; Manufacturer #1: Luminary Micro; LMI Class: Fury; Designator: U; Part Number: LM3S1635-IQC
footprint QFP50P1600X1600X160-100N
pins: 1 ADC0, 2 ADC1, 3 VDDA, 4 GNDA, 5 ADC2, 6 ADC3, 7 LDO, 8 VDD, 9 GND, 10 PD0/PWM0, 11 PD1/PWM1, 12 PD2/U1RX, 13 PD3/U1TX, 14 VDD25, 15 GND, 16 PG3, 17 PG2, 18 PG1/U2TX, 19 PG0/U2RX, 20 VDD, 21 GND, 22 PC7/CCP4, 23 PC6/CCP3, 24 PC5/C1+, 25 PC4/CCP5, 26 PA0/U0RX, 27 PA1/U0TX, 28 PA2/SSI0CLK, 29 PA3/SSI0FSS, 30 PA4/SSI0RX, 31 PA5/SSI0TX, 32 VDD, 33 GND, 34 PA6/I2C1SCL, 35 PA7/I2C1SDA, 36 PG7, 37 PG6, 38 VDD25, 39 GND, 40 PG5, 41 PG4, 42 PF7, 43 PF6, 44 VDD, 45 GND, 46 PF5/C1O, 47 PF0, 48 OSC0, 49 OSC1, 50 WAKEN, 51 HIBN, 52 XOSC0, 53 XOSC1, 54 GND, 55 VBAT, 56 VDD, 57 GND, 58 PF4/C0O, 59 PF3/PWM5, 60 PF2/PWM4, 61 PF1, 62 VDD25, 63 GND, 64 RSTN, 65 CMOD0, 66 PB0/PWM2, 67 PB1/PWM3, 68 VDD, 69 GND, 70 PB2/I2C0SCL, 71 PB3/I2C0SDA, 72 PE0/SSI1CLK, 73 PE1/SSI1FSS, 74 PE2/SSI1RX, 75 PE3/SSI1TX, 76 CMOD1, 77 PC3/TDO/SWO, 78 PC2/TDI, 79 PC1/TMS/SWDIO, 80 PC0/TCK/SWCLK, 81 VDD, 82 GND, 83 PH3, 84 PH2, 85 PH1/CCP7, 86 PH0/CCP6, 87 GND, 88 VDD25, 89 PB7/TRSTN, 90 PB6/C0+, 91 PB5/C1-, 92 PB4/C0-, 93 VDD, 94 GND, 95 PD4/CCP0, 96 PD5/CCP2, 97 GNDA, 98 VDDA, 99 PD6/FAULT, 100 PD7/CCP1

## LM3S1637-IBZ
designator ?  Comment_1: LM3S1637-IBZ  (hidden comment: *)
Stellaris ARM Cortex-M3 Microcontroller; Manufacturer #1: Luminary Micro; LMI Class: Fury; Designator: U; Part Number: LM3S1637-IBZ
footprint BGA108C80P12X12_1000X1000X150
pins: 1 L3, 2 M3, 3 M4, 4 L4, 5 L5, 6 M5, 7 A9, 8 B9, 9 B8, 10 A10, 11 L1, 12 M1, 13 M2, 14 L2, 15 G1, 16 G2, 17 H2, 18 H1, 19 E1, 20 E2, 21 F2, 22 F1, 23 C4, 24 C5, 25 H3, 26 J3, 27 H11, 28 E3, 29 L11, 30 M11, 31 E12, 32 D12, 33 C11, 34 C12, 35 A6, 36 B7, 37 A7, 38 A8, 39 A11, 40 B12, 41 B11, 42 A12, 43 D1, 44 D2, 45 L6, 46 M6, 47 C2, 48 C1, 49 M9, 50 H12, 51 J11, 52 J12, 53 L9, 54 L8, 55 M8, 56 K4, 57 K1, 58 K2, 59 J1, 60 J2, 61 K3, 62 M7, 63 L7, 64 C10, 65 C9, 66 C8, 67 D11, 68 D10, 69 C6, 70 C7, 71 A5, 72 B5, 73 K7, 74 G12, 75 K8, 76 K9, 77 H10, 78 G10, 79 E10, 80 G11, 81 K5, 82 K6, 83 L10, 84 K10, 85 J10, 86 F10, 87 F11, 88 B6, 89 F12, 90 C3, 91 D3, 92 F3, 93 G3, 94 M10, 95 M12, 96 K11, 97 K12, 98 L12, 99 E11, 100 B10, 101 B1, 102 A1, 103 B3, 104 B2, 105 A2, 106 A3, 107 B4, 108 A4

## LM3S1637-IQC
designator ?  Comment_1: LM3S1637-IQC  (hidden comment: *)
Stellaris ARM Cortex-M3 Microcontroller; Manufacturer #1: Luminary Micro; LMI Class: Fury; Designator: U; Part Number: LM3S1637-IQC
footprint QFP50P1600X1600X160-100N
pins: 1 ADC0, 2 ADC1, 3 VDDA, 4 GNDA, 5 ADC2, 6 ADC3, 7 LDO, 8 VDD, 9 GND, 10 PD0/PWM0, 11 PD1/PWM1, 12 PD2/U1RX, 13 PD3/U1TX, 14 VDD25, 15 GND, 16 NC, 17 PG2, 18 PG1/U2TX, 19 PG0/U2RX, 20 VDD, 21 GND, 22 PC7/PHB0, 23 PC6/CCP3, 24 PC5/C0O, 25 PC4/PHA0, 26 PA0/U0RX, 27 PA1/U0TX, 28 PA2/SSI0CLK, 29 PA3/SSI0FSS, 30 PA4/SSI0RX, 31 PA5/SSI0TX, 32 VDD, 33 GND, 34 PA6/CCP1, 35 PA7/CCP4, 36 NC, 37 NC, 38 VDD25, 39 GND, 40 NC, 41 NC, 42 NC, 43 NC, 44 VDD, 45 GND, 46 NC, 47 PF0, 48 OSC0, 49 OSC1, 50 WAKEN, 51 HIBN, 52 XOSC0, 53 XOSC1, 54 GND, 55 VBAT, 56 VDD, 57 GND, 58 NC, 59 PF3, 60 PF2, 61 PF1, 62 VDD25, 63 GND, 64 RSTN, 65 CMOD0, 66 PB0/CCP0, 67 PB1/CCP2, 68 VDD, 69 GND, 70 PB2/I2C0SCL, 71 PB3/I2C0SDA, 72 PE0/PWM4, 73 PE1/PWM5, 74 NC, 75 NC, 76 CMOD1, 77 PC3/TDO/SWO, 78 PC2/TDI, 79 PC1/TMS/SWDIO, 80 PC0/TCK/SWCLK, 81 VDD, 82 GND, 83 NC, 84 NC, 85 PH1/PWM3, 86 PH0/PWM2, 87 GND, 88 VDD25, 89 PB7/TRSTN, 90 PB6/C0+, 91 PB5/CCP5, 92 PB4/C0-, 93 VDD, 94 GND, 95 PD4, 96 PD5, 97 GNDA, 98 VDDA, 99 PD6/FAULT, 100 PD7/IDX0

## LM3S1651-IBZ
designator ?
Stellaris ARM Cortex-M3 Microcontroller; Manufacturer #1: Texas Instruments; Stellaris Class: Tempest; Part Number: LM3S1651-IBZ
footprint BGA108C80P12X12_1000X1000X150
pins: 1 C4, 2 C5, 3 J3, 4 K5, 5 L10, 6 K10, 7 J10, 8 F11, 9 F12, 10 A5, 11 M12, 12 E3, 13 C11, 14 C12, 15 B12, 16 C1, 17 C2, 18 D2, 19 D1, 20 E1, 21 E2, 22 F1, 23 F2, 24 L11, 25 M11, 26 L3, 27 M3, 28 M4, 29 L4, 30 L5, 31 M5, 32 L6, 33 M6, 34 E12, 35 D12, 36 A11, 37 E11, 38 A6, 39 B7, 40 A7, 41 A8, 42 A9, 43 B9, 44 B8, 45 A10, 46 L1, 47 M1, 48 M2, 49 L2, 50 G1, 51 G2, 52 H2, 53 H1, 54 B5, 55 C6, 56 A3, 57 A2, 58 B11, 59 A12, 60 A4, 61 B4, 62 B2, 63 B3, 64 A1, 65 B1, 66 M9, 67 H12, 68 J11, 69 J12, 70 L9, 71 L8, 72 M8, 73 K4, 74 K1, 75 K2, 76 J1, 77 J2, 78 K3, 79 M7, 80 L7, 81 C10, 82 C9, 83 C8, 84 D11, 85 D10, 86 B10, 87 F10, 88 G3, 89 H3, 90 F3, 91 B6, 92 K6, 93 H11, 94 L12, 95 K7, 96 G12, 97 K8, 98 K9, 99 H10, 100 G10, 101 E10, 102 G11, 103 C7, 104 D3, 105 C3, 106 M10, 107 K11, 108 K12

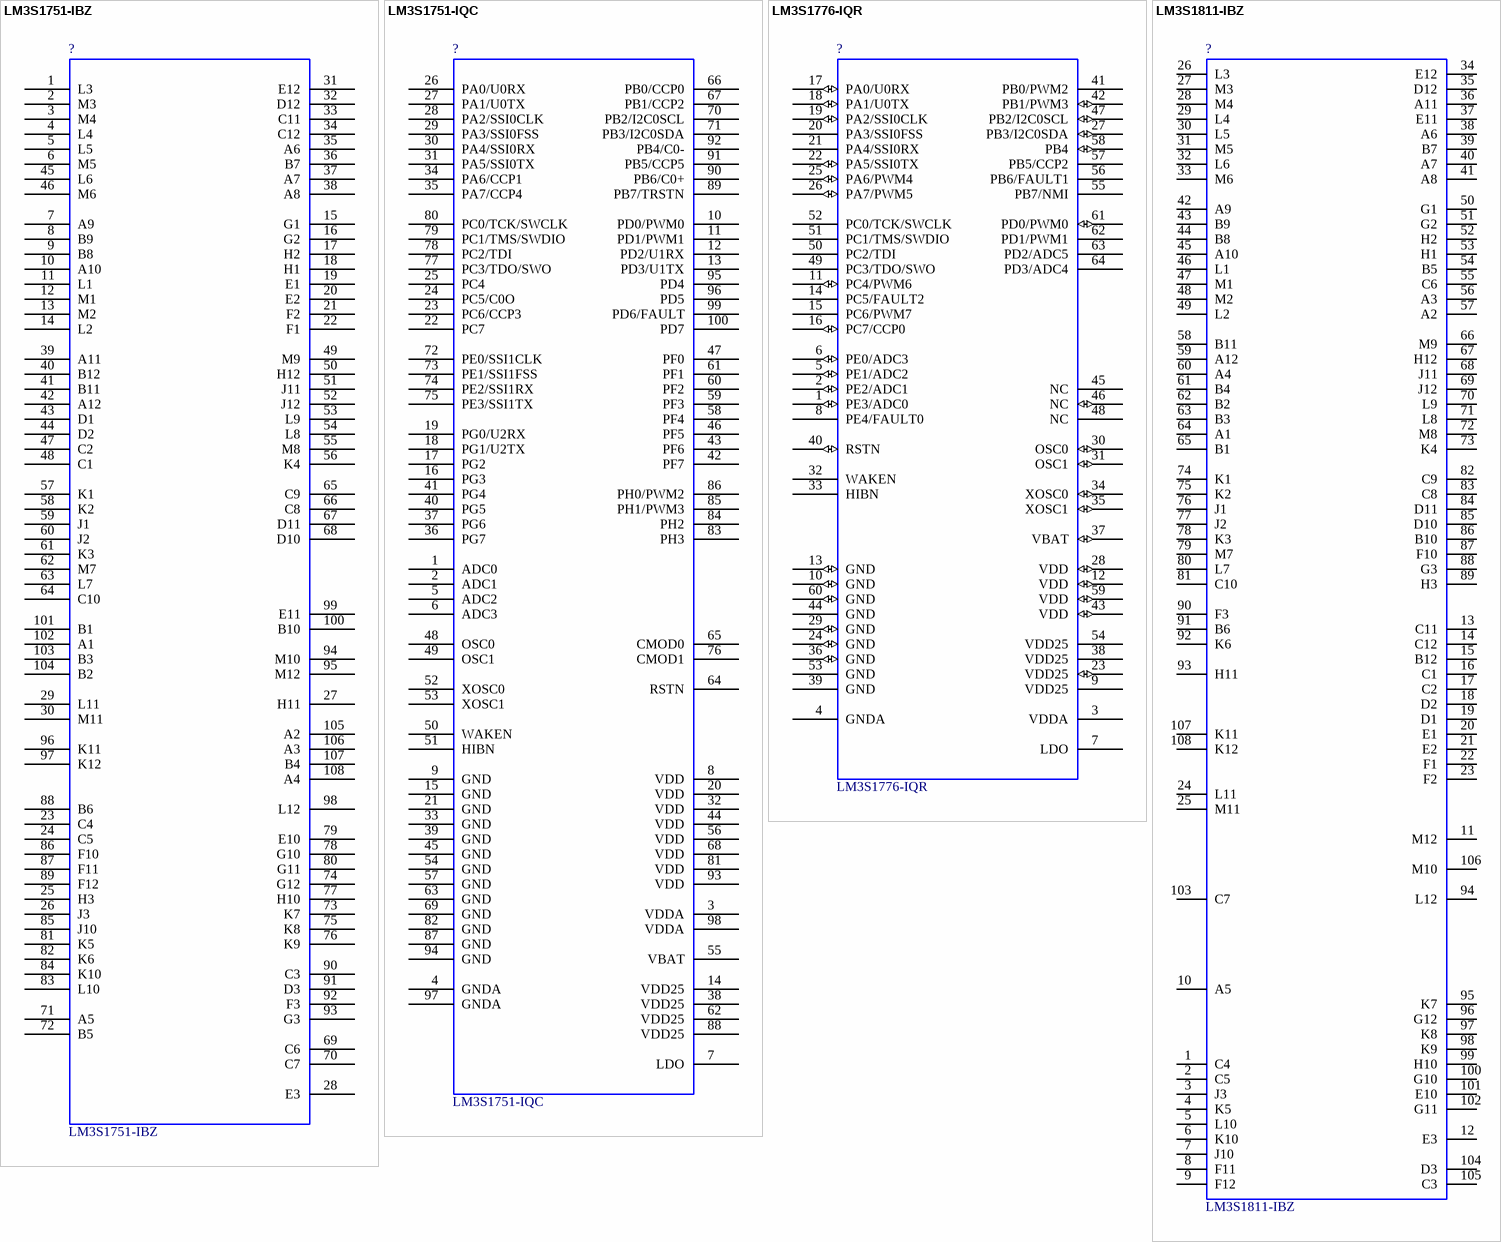
[diagram p29: symbols LM3S1751-IBZ to LM3S1811-IBZ]

## LM3S1751-IBZ
designator ?  Comment_1: LM3S1751-IBZ  (hidden comment: *)
Stellaris ARM Cortex-M3 Microcontroller; Manufacturer #1: Luminary Micro; LMI Class: Fury; Designator: U; Part Number: LM3S1751-IBZ
footprint BGA108C80P12X12_1000X1000X150
pins: 1 L3, 2 M3, 3 M4, 4 L4, 5 L5, 6 M5, 7 A9, 8 B9, 9 B8, 10 A10, 11 L1, 12 M1, 13 M2, 14 L2, 15 G1, 16 G2, 17 H2, 18 H1, 19 E1, 20 E2, 21 F2, 22 F1, 23 C4, 24 C5, 25 H3, 26 J3, 27 H11, 28 E3, 29 L11, 30 M11, 31 E12, 32 D12, 33 C11, 34 C12, 35 A6, 36 B7, 37 A7, 38 A8, 39 A11, 40 B12, 41 B11, 42 A12, 43 D1, 44 D2, 45 L6, 46 M6, 47 C2, 48 C1, 49 M9, 50 H12, 51 J11, 52 J12, 53 L9, 54 L8, 55 M8, 56 K4, 57 K1, 58 K2, 59 J1, 60 J2, 61 K3, 62 M7, 63 L7, 64 C10, 65 C9, 66 C8, 67 D11, 68 D10, 69 C6, 70 C7, 71 A5, 72 B5, 73 K7, 74 G12, 75 K8, 76 K9, 77 H10, 78 G10, 79 E10, 80 G11, 81 K5, 82 K6, 83 L10, 84 K10, 85 J10, 86 F10, 87 F11, 88 B6, 89 F12, 90 C3, 91 D3, 92 F3, 93 G3, 94 M10, 95 M12, 96 K11, 97 K12, 98 L12, 99 E11, 100 B10, 101 B1, 102 A1, 103 B3, 104 B2, 105 A2, 106 A3, 107 B4, 108 A4

## LM3S1751-IQC
designator ?  Comment_1: LM3S1751-IQC  (hidden comment: *)
Stellaris ARM Cortex-M3 Microcontroller; Manufacturer #1: Luminary Micro; LMI Class: Fury; Designator: U; Part Number: LM3S1751-IQC
footprint QFP50P1600X1600X160-100N
pins: 1 ADC0, 2 ADC1, 3 VDDA, 4 GNDA, 5 ADC2, 6 ADC3, 7 LDO, 8 VDD, 9 GND, 10 PD0/PWM0, 11 PD1/PWM1, 12 PD2/U1RX, 13 PD3/U1TX, 14 VDD25, 15 GND, 16 PG3, 17 PG2, 18 PG1/U2TX, 19 PG0/U2RX, 20 VDD, 21 GND, 22 PC7, 23 PC6/CCP3, 24 PC5/C0O, 25 PC4, 26 PA0/U0RX, 27 PA1/U0TX, 28 PA2/SSI0CLK, 29 PA3/SSI0FSS, 30 PA4/SSI0RX, 31 PA5/SSI0TX, 32 VDD, 33 GND, 34 PA6/CCP1, 35 PA7/CCP4, 36 PG7, 37 PG6, 38 VDD25, 39 GND, 40 PG5, 41 PG4, 42 PF7, 43 PF6, 44 VDD, 45 GND, 46 PF5, 47 PF0, 48 OSC0, 49 OSC1, 50 WAKEN, 51 HIBN, 52 XOSC0, 53 XOSC1, 54 GND, 55 VBAT, 56 VDD, 57 GND, 58 PF4, 59 PF3, 60 PF2, 61 PF1, 62 VDD25, 63 GND, 64 RSTN, 65 CMOD0, 66 PB0/CCP0, 67 PB1/CCP2, 68 VDD, 69 GND, 70 PB2/I2C0SCL, 71 PB3/I2C0SDA, 72 PE0/SSI1CLK, 73 PE1/SSI1FSS, 74 PE2/SSI1RX, 75 PE3/SSI1TX, 76 CMOD1, 77 PC3/TDO/SWO, 78 PC2/TDI, 79 PC1/TMS/SWDIO, 80 PC0/TCK/SWCLK, 81 VDD, 82 GND, 83 PH3, 84 PH2, 85 PH1/PWM3, 86 PH0/PWM2, 87 GND, 88 VDD25, 89 PB7/TRSTN, 90 PB6/C0+, 91 PB5/CCP5, 92 PB4/C0-, 93 VDD, 94 GND, 95 PD4, 96 PD5, 97 GNDA, 98 VDDA, 99 PD6/FAULT, 100 PD7

## LM3S1776-IQR
designator ?  Comment_1: LM3S1776-IQR  (hidden comment: *)
Stellaris ARM Cortex-M3 Microcontroller; Manufacturer #1: Luminary Micro; LMI Class: Dust Devil; Designator: U; Part Number: LM3S1776-IQR
footprint QFP50P1200X1200X160-64N
pins: 1 PE3/ADC0 (io), 2 PE2/ADC1 (io), 3 VDDA (power), 4 GNDA (power), 5 PE1/ADC2 (io), 6 PE0/ADC3 (io), 7 LDO, 8 PE4/FAULT0 (power), 9 VDD25 (power), 10 GND (io), 11 PC4/PWM6 (io), 12 VDD (io), 13 GND (io), 14 PC5/FAULT2 (power), 15 PC6/PWM7 (power), 16 PC7/CCP0 (io), 17 PA0/U0RX (io), 18 PA1/U0TX (io), 19 PA2/SSI0CLK (io), 20 PA3/SSI0FSS (power), 21 PA4/SSI0RX (power), 22 PA5/SSI0TX (io), 23 VDD25 (io), 24 GND (io), 25 PA6/PWM4 (io), 26 PA7/PWM5 (io), 27 PB3/I2C0SDA (io), 28 VDD (io), 29 GND (io), 30 OSC0 (io), 31 OSC1 (io), 32 WAKEN (power), 33 HIBN (power), 34 XOSC0 (io), 35 XOSC1 (io), 36 GND (io), 37 VBAT (io), 38 VDD25 (power), 39 GND (power), 40 RSTN (io), 41 PB0/PWM2, 42 PB1/PWM3 (io), 43 VDD (io), 44 GND (power), 45 NC (power), 46 NC (io), 47 PB2/I2C0SCL (io), 48 NC, 49 PC3/TDO/SWO, 50 PC2/TDI, 51 PC1/TMS/SWDIO, 52 PC0/TCK/SWCLK, 53 GND, 54 VDD25 (power), 55 PB7/NMI (power), 56 PB6/FAULT1 (power), 57 PB5/CCP2 (power), 58 PB4 (io), 59 VDD (io), 60 GND (io), 61 PD0/PWM0 (io), 62 PD1/PWM1 (power), 63 PD2/ADC5 (power), 64 PD3/ADC4

## LM3S1811-IBZ
designator ?
Stellaris ARM Cortex-M3 Microcontroller; Manufacturer #1: Texas Instruments; Stellaris Class: Tempest; Part Number: LM3S1811-IBZ
footprint BGA108C80P12X12_1000X1000X150
pins: 1 C4, 2 C5, 3 J3, 4 K5, 5 L10, 6 K10, 7 J10, 8 F11, 9 F12, 10 A5, 11 M12, 12 E3, 13 C11, 14 C12, 15 B12, 16 C1, 17 C2, 18 D2, 19 D1, 20 E1, 21 E2, 22 F1, 23 F2, 24 L11, 25 M11, 26 L3, 27 M3, 28 M4, 29 L4, 30 L5, 31 M5, 32 L6, 33 M6, 34 E12, 35 D12, 36 A11, 37 E11, 38 A6, 39 B7, 40 A7, 41 A8, 42 A9, 43 B9, 44 B8, 45 A10, 46 L1, 47 M1, 48 M2, 49 L2, 50 G1, 51 G2, 52 H2, 53 H1, 54 B5, 55 C6, 56 A3, 57 A2, 58 B11, 59 A12, 60 A4, 61 B4, 62 B2, 63 B3, 64 A1, 65 B1, 66 M9, 67 H12, 68 J11, 69 J12, 70 L9, 71 L8, 72 M8, 73 K4, 74 K1, 75 K2, 76 J1, 77 J2, 78 K3, 79 M7, 80 L7, 81 C10, 82 C9, 83 C8, 84 D11, 85 D10, 86 B10, 87 F10, 88 G3, 89 H3, 90 F3, 91 B6, 92 K6, 93 H11, 94 L12, 95 K7, 96 G12, 97 K8, 98 K9, 99 H10, 100 G10, 101 E10, 102 G11, 103 C7, 104 D3, 105 C3, 106 M10, 107 K11, 108 K12

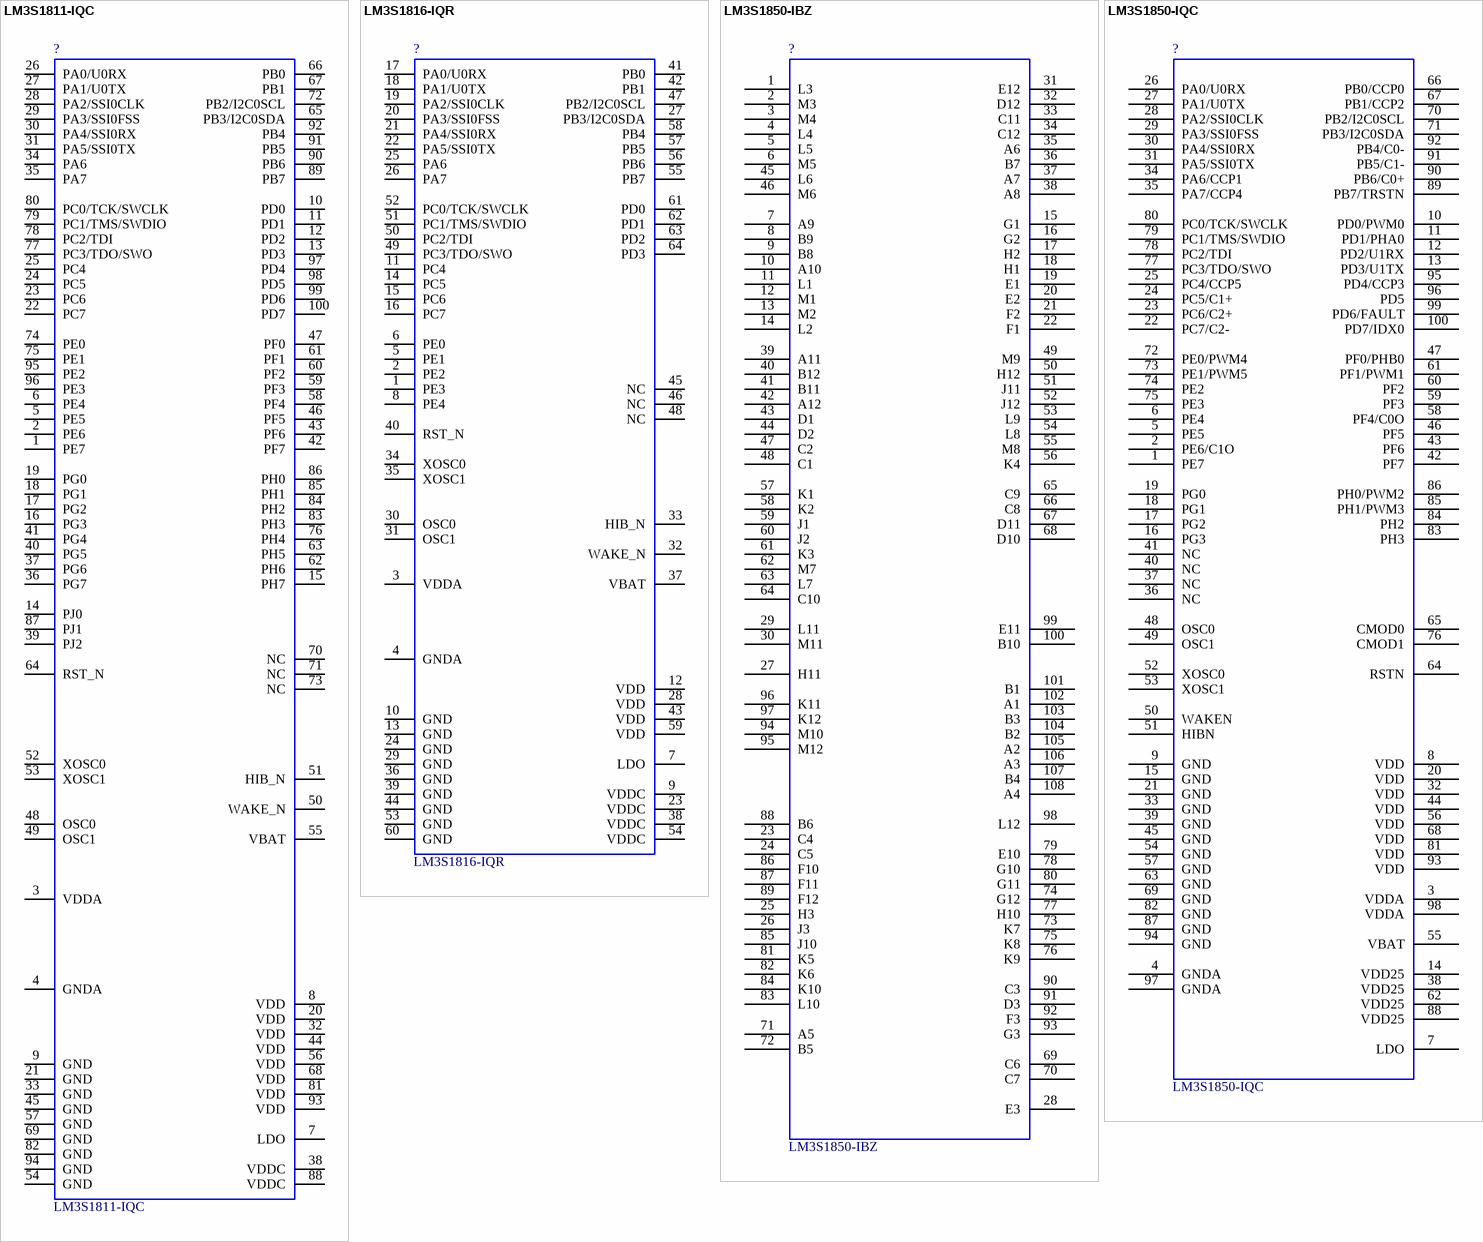
[diagram p30: symbols LM3S1811-IQC to LM3S1850-IQC]

## LM3S1811-IQC
designator ?
Stellaris ARM Cortex-M3 Microcontroller; Manufacturer #1: Texas Instruments; Stellaris Class: Tempest; Part Number: LM3S1811-IQC
footprint PCBNULL
pins: 1 PE7, 2 PE6, 3 VDDA, 4 GNDA, 5 PE5, 6 PE4, 7 LDO, 8 VDD, 9 GND, 10 PD0, 11 PD1, 12 PD2, 13 PD3, 14 PJ0, 15 PH7, 16 PG3, 17 PG2, 18 PG1, 19 PG0, 20 VDD, 21 GND, 22 PC7, 23 PC6, 24 PC5, 25 PC4, 26 PA0/U0RX, 27 PA1/U0TX, 28 PA2/SSI0CLK, 29 PA3/SSI0FSS, 30 PA4/SSI0RX, 31 PA5/SSI0TX, 32 VDD, 33 GND, 34 PA6, 35 PA7, 36 PG7, 37 PG6, 38 VDDC, 39 PJ2, 40 PG5, 41 PG4, 42 PF7, 43 PF6, 44 VDD, 45 GND, 46 PF5, 47 PF0, 48 OSC0, 49 OSC1, 50 WAKE_N, 51 HIB_N, 52 XOSC0, 53 XOSC1, 54 GND, 55 VBAT, 56 VDD, 57 GND, 58 PF4, 59 PF3, 60 PF2, 61 PF1, 62 PH6, 63 PH5, 64 RST_N, 65 PB3/I2C0SDA, 66 PB0, 67 PB1, 68 VDD, 69 GND, 70 NC, 71 NC, 72 PB2/I2C0SCL, 73 NC, 74 PE0, 75 PE1, 76 PH4, 77 PC3/TDO/SWO, 78 PC2/TDI, 79 PC1/TMS/SWDIO, 80 PC0/TCK/SWCLK, 81 VDD, 82 GND, 83 PH3, 84 PH2, 85 PH1, 86 PH0, 87 PJ1, 88 VDDC, 89 PB7, 90 PB6, 91 PB5, 92 PB4, 93 VDD, 94 GND, 95 PE2, 96 PE3, 97 PD4, 98 PD5, 99 PD6, 100 PD7

## LM3S1816-IQR
designator ?
Stellaris ARM Cortex-M3 Microcontroller; Manufacturer #1: Texas Instruments; Stellaris Class: Tempest; Part Number: LM3S1816-IQR
footprint QFP50P1200X1200X160-64N
pins: 1 PE3, 2 PE2, 3 VDDA, 4 GNDA, 5 PE1, 6 PE0, 7 LDO, 8 PE4, 9 VDDC, 10 GND, 11 PC4, 12 VDD, 13 GND, 14 PC5 (power), 15 PC6, 16 PC7, 17 PA0/U0RX, 18 PA1/U0TX, 19 PA2/SSI0CLK, 20 PA3/SSI0FSS, 21 PA4/SSI0RX, 22 PA5/SSI0TX, 23 VDDC, 24 GND, 25 PA6, 26 PA7, 27 PB3/I2C0SDA, 28 VDD, 29 GND, 30 OSC0, 31 OSC1, 32 WAKE_N, 33 HIB_N, 34 XOSC0, 35 XOSC1, 36 GND, 37 VBAT, 38 VDDC, 39 GND, 40 RST_N, 41 PB0, 42 PB1, 43 VDD, 44 GND, 45 NC, 46 NC, 47 PB2/I2C0SCL, 48 NC, 49 PC3/TDO/SWO, 50 PC2/TDI, 51 PC1/TMS/SWDIO, 52 PC0/TCK/SWCLK, 53 GND, 54 VDDC, 55 PB7, 56 PB6, 57 PB5, 58 PB4, 59 VDD, 60 GND, 61 PD0, 62 PD1, 63 PD2, 64 PD3

## LM3S1850-IBZ
designator ?  Comment_1: LM3S1850-IBZ  (hidden comment: *)
Stellaris ARM Cortex-M3 Microcontroller; Manufacturer #1: Luminary Micro; LMI Class: Fury; Designator: U; Part Number: LM3S1850-IBZ
footprint BGA108C80P12X12_1000X1000X150
pins: 1 L3, 2 M3, 3 M4, 4 L4, 5 L5, 6 M5, 7 A9, 8 B9, 9 B8, 10 A10, 11 L1, 12 M1, 13 M2, 14 L2, 15 G1, 16 G2, 17 H2, 18 H1, 19 E1, 20 E2, 21 F2, 22 F1, 23 C4, 24 C5, 25 H3, 26 J3, 27 H11, 28 E3, 29 L11, 30 M11, 31 E12, 32 D12, 33 C11, 34 C12, 35 A6, 36 B7, 37 A7, 38 A8, 39 A11, 40 B12, 41 B11, 42 A12, 43 D1, 44 D2, 45 L6, 46 M6, 47 C2, 48 C1, 49 M9, 50 H12, 51 J11, 52 J12, 53 L9, 54 L8, 55 M8, 56 K4, 57 K1, 58 K2, 59 J1, 60 J2, 61 K3, 62 M7, 63 L7, 64 C10, 65 C9, 66 C8, 67 D11, 68 D10, 69 C6, 70 C7, 71 A5, 72 B5, 73 K7, 74 G12, 75 K8, 76 K9, 77 H10, 78 G10, 79 E10, 80 G11, 81 K5, 82 K6, 83 L10, 84 K10, 85 J10, 86 F10, 87 F11, 88 B6, 89 F12, 90 C3, 91 D3, 92 F3, 93 G3, 94 M10, 95 M12, 96 K11, 97 K12, 98 L12, 99 E11, 100 B10, 101 B1, 102 A1, 103 B3, 104 B2, 105 A2, 106 A3, 107 B4, 108 A4

## LM3S1850-IQC
designator ?  Comment_1: LM3S1850-IQC  (hidden comment: *)
Stellaris ARM Cortex-M3 Microcontroller; Manufacturer #1: Luminary Micro; LMI Class: Fury; Designator: U; Part Number: LM3S1850-IQC
footprint QFP50P1600X1600X160-100N
pins: 1 PE7, 2 PE6/C1O, 3 VDDA, 4 GNDA, 5 PE5, 6 PE4, 7 LDO, 8 VDD, 9 GND, 10 PD0/PWM0, 11 PD1/PHA0, 12 PD2/U1RX, 13 PD3/U1TX, 14 VDD25, 15 GND, 16 PG3, 17 PG2, 18 PG1, 19 PG0, 20 VDD, 21 GND, 22 PC7/C2-, 23 PC6/C2+, 24 PC5/C1+, 25 PC4/CCP5, 26 PA0/U0RX, 27 PA1/U0TX, 28 PA2/SSI0CLK, 29 PA3/SSI0FSS, 30 PA4/SSI0RX, 31 PA5/SSI0TX, 32 VDD, 33 GND, 34 PA6/CCP1, 35 PA7/CCP4, 36 NC, 37 NC, 38 VDD25, 39 GND, 40 NC, 41 NC, 42 PF7, 43 PF6, 44 VDD, 45 GND, 46 PF5, 47 PF0/PHB0, 48 OSC0, 49 OSC1, 50 WAKEN, 51 HIBN, 52 XOSC0, 53 XOSC1, 54 GND, 55 VBAT, 56 VDD, 57 GND, 58 PF4/C0O, 59 PF3, 60 PF2, 61 PF1/PWM1, 62 VDD25, 63 GND, 64 RSTN, 65 CMOD0, 66 PB0/CCP0, 67 PB1/CCP2, 68 VDD, 69 GND, 70 PB2/I2C0SCL, 71 PB3/I2C0SDA, 72 PE0/PWM4, 73 PE1/PWM5, 74 PE2, 75 PE3, 76 CMOD1, 77 PC3/TDO/SWO, 78 PC2/TDI, 79 PC1/TMS/SWDIO, 80 PC0/TCK/SWCLK, 81 VDD, 82 GND, 83 PH3, 84 PH2, 85 PH1/PWM3, 86 PH0/PWM2, 87 GND, 88 VDD25, 89 PB7/TRSTN, 90 PB6/C0+, 91 PB5/C1-, 92 PB4/C0-, 93 VDD, 94 GND, 95 PD4/CCP3, 96 PD5, 97 GNDA, 98 VDDA, 99 PD6/FAULT, 100 PD7/IDX0

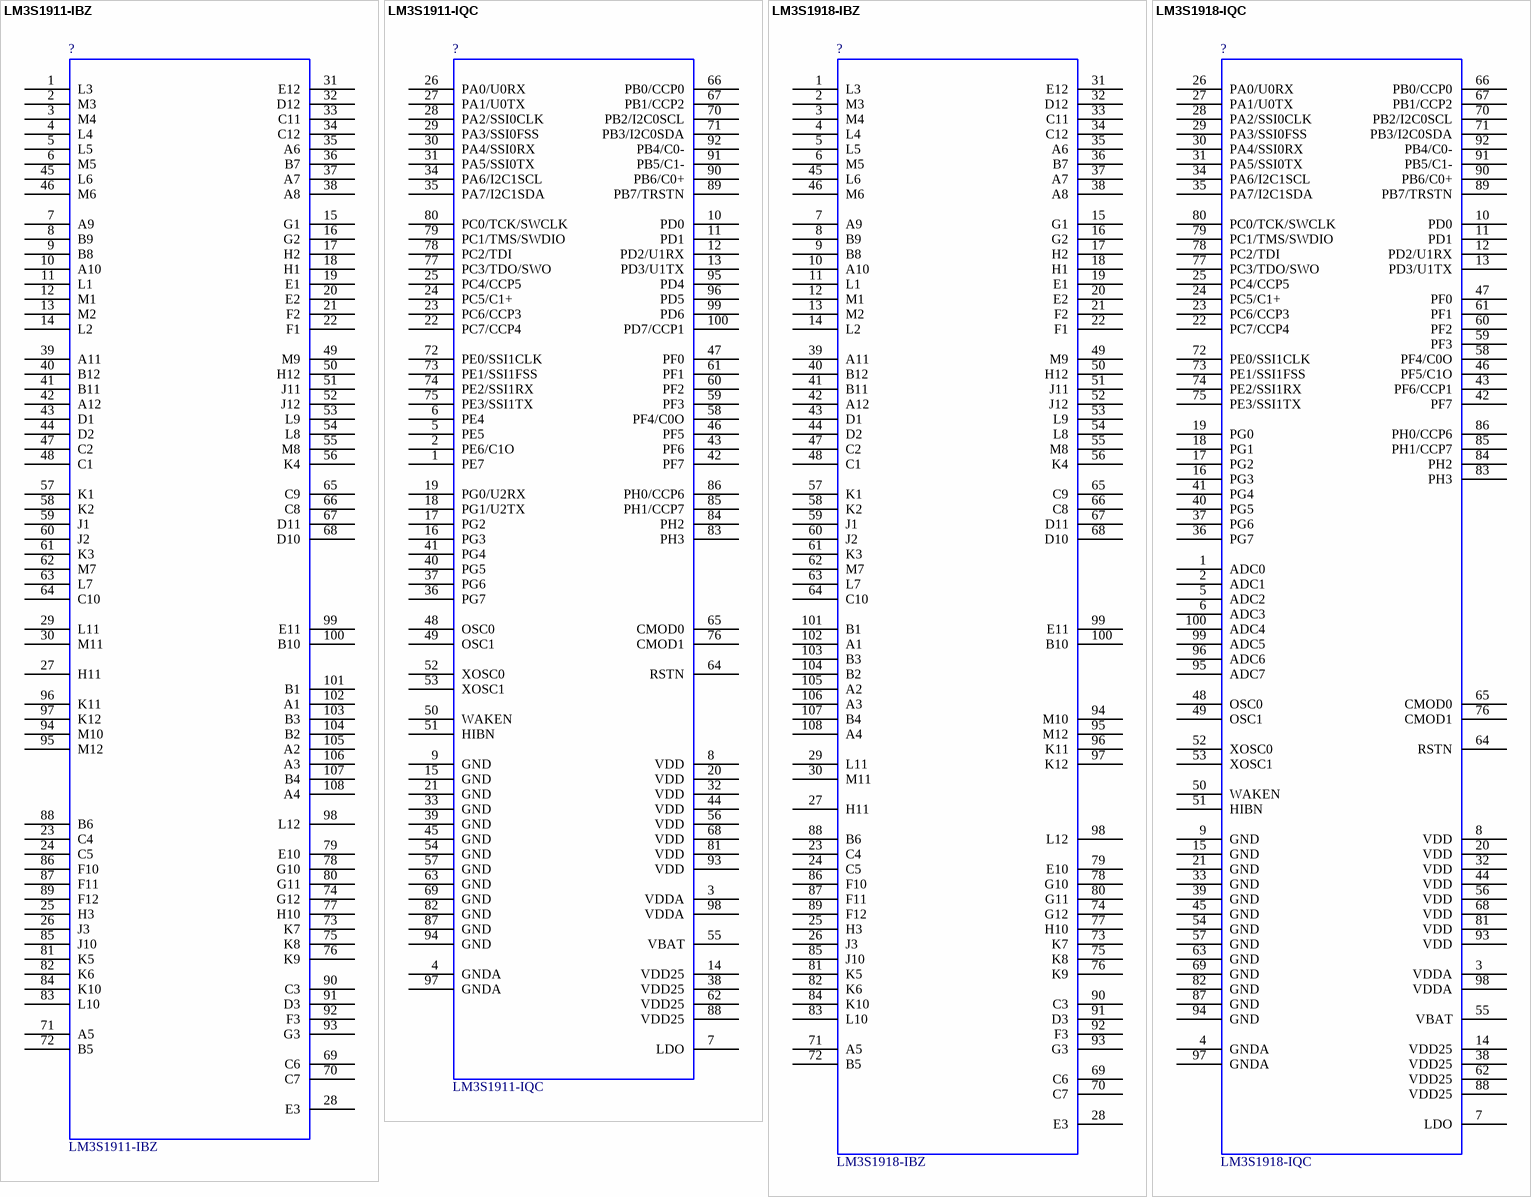
[diagram p31: symbols LM3S1911-IBZ to LM3S1918-IQC]

## LM3S1911-IBZ
designator ?  Comment_1: LM3S1911-IBZ  (hidden comment: *)
Stellaris ARM Cortex-M3 Microcontroller; Manufacturer #1: Luminary Micro; LMI Class: Fury; Designator: U; Part Number: LM3S1911-IBZ
footprint BGA108C80P12X12_1000X1000X150
pins: 1 L3, 2 M3, 3 M4, 4 L4, 5 L5, 6 M5, 7 A9, 8 B9, 9 B8, 10 A10, 11 L1, 12 M1, 13 M2, 14 L2, 15 G1, 16 G2, 17 H2, 18 H1, 19 E1, 20 E2, 21 F2, 22 F1, 23 C4, 24 C5, 25 H3, 26 J3, 27 H11, 28 E3, 29 L11, 30 M11, 31 E12, 32 D12, 33 C11, 34 C12, 35 A6, 36 B7, 37 A7, 38 A8, 39 A11, 40 B12, 41 B11, 42 A12, 43 D1, 44 D2, 45 L6, 46 M6, 47 C2, 48 C1, 49 M9, 50 H12, 51 J11, 52 J12, 53 L9, 54 L8, 55 M8, 56 K4, 57 K1, 58 K2, 59 J1, 60 J2, 61 K3, 62 M7, 63 L7, 64 C10, 65 C9, 66 C8, 67 D11, 68 D10, 69 C6, 70 C7, 71 A5, 72 B5, 73 K7, 74 G12, 75 K8, 76 K9, 77 H10, 78 G10, 79 E10, 80 G11, 81 K5, 82 K6, 83 L10, 84 K10, 85 J10, 86 F10, 87 F11, 88 B6, 89 F12, 90 C3, 91 D3, 92 F3, 93 G3, 94 M10, 95 M12, 96 K11, 97 K12, 98 L12, 99 E11, 100 B10, 101 B1, 102 A1, 103 B3, 104 B2, 105 A2, 106 A3, 107 B4, 108 A4

## LM3S1911-IQC
designator ?  Comment_1: LM3S1911-IQC  (hidden comment: *)
Stellaris ARM Cortex-M3 Microcontroller; Manufacturer #1: Luminary Micro; LMI Class: Fury; Designator: U; Part Number: LM3S1911-IQC
footprint QFP50P1600X1600X160-100N
pins: 1 PE7, 2 PE6/C1O, 3 VDDA, 4 GNDA, 5 PE5, 6 PE4, 7 LDO, 8 VDD, 9 GND, 10 PD0, 11 PD1, 12 PD2/U1RX, 13 PD3/U1TX, 14 VDD25, 15 GND, 16 PG3, 17 PG2, 18 PG1/U2TX, 19 PG0/U2RX, 20 VDD, 21 GND, 22 PC7/CCP4, 23 PC6/CCP3, 24 PC5/C1+, 25 PC4/CCP5, 26 PA0/U0RX, 27 PA1/U0TX, 28 PA2/SSI0CLK, 29 PA3/SSI0FSS, 30 PA4/SSI0RX, 31 PA5/SSI0TX, 32 VDD, 33 GND, 34 PA6/I2C1SCL, 35 PA7/I2C1SDA, 36 PG7, 37 PG6, 38 VDD25, 39 GND, 40 PG5, 41 PG4, 42 PF7, 43 PF6, 44 VDD, 45 GND, 46 PF5, 47 PF0, 48 OSC0, 49 OSC1, 50 WAKEN, 51 HIBN, 52 XOSC0, 53 XOSC1, 54 GND, 55 VBAT, 56 VDD, 57 GND, 58 PF4/C0O, 59 PF3, 60 PF2, 61 PF1, 62 VDD25, 63 GND, 64 RSTN, 65 CMOD0, 66 PB0/CCP0, 67 PB1/CCP2, 68 VDD, 69 GND, 70 PB2/I2C0SCL, 71 PB3/I2C0SDA, 72 PE0/SSI1CLK, 73 PE1/SSI1FSS, 74 PE2/SSI1RX, 75 PE3/SSI1TX, 76 CMOD1, 77 PC3/TDO/SWO, 78 PC2/TDI, 79 PC1/TMS/SWDIO, 80 PC0/TCK/SWCLK, 81 VDD, 82 GND, 83 PH3, 84 PH2, 85 PH1/CCP7, 86 PH0/CCP6, 87 GND, 88 VDD25, 89 PB7/TRSTN, 90 PB6/C0+, 91 PB5/C1-, 92 PB4/C0-, 93 VDD, 94 GND, 95 PD4, 96 PD5, 97 GNDA, 98 VDDA, 99 PD6, 100 PD7/CCP1

## LM3S1918-IBZ
designator ?  Comment_1: LM3S1918-IBZ  (hidden comment: *)
Stellaris ARM Cortex-M3 Microcontroller; Manufacturer #1: Luminary Micro; LMI Class: Fury; Designator: U; Part Number: LM3S1918-IBZ
footprint BGA108C80P12X12_1000X1000X150
pins: 1 L3, 2 M3, 3 M4, 4 L4, 5 L5, 6 M5, 7 A9, 8 B9, 9 B8, 10 A10, 11 L1, 12 M1, 13 M2, 14 L2, 15 G1, 16 G2, 17 H2, 18 H1, 19 E1, 20 E2, 21 F2, 22 F1, 23 C4, 24 C5, 25 H3, 26 J3, 27 H11, 28 E3, 29 L11, 30 M11, 31 E12, 32 D12, 33 C11, 34 C12, 35 A6, 36 B7, 37 A7, 38 A8, 39 A11, 40 B12, 41 B11, 42 A12, 43 D1, 44 D2, 45 L6, 46 M6, 47 C2, 48 C1, 49 M9, 50 H12, 51 J11, 52 J12, 53 L9, 54 L8, 55 M8, 56 K4, 57 K1, 58 K2, 59 J1, 60 J2, 61 K3, 62 M7, 63 L7, 64 C10, 65 C9, 66 C8, 67 D11, 68 D10, 69 C6, 70 C7, 71 A5, 72 B5, 73 K7, 74 G12, 75 K8, 76 K9, 77 H10, 78 G10, 79 E10, 80 G11, 81 K5, 82 K6, 83 L10, 84 K10, 85 J10, 86 F10, 87 F11, 88 B6, 89 F12, 90 C3, 91 D3, 92 F3, 93 G3, 94 M10, 95 M12, 96 K11, 97 K12, 98 L12, 99 E11, 100 B10, 101 B1, 102 A1, 103 B3, 104 B2, 105 A2, 106 A3, 107 B4, 108 A4

## LM3S1918-IQC
designator ?  Comment_1: LM3S1918-IQC  (hidden comment: *)
Stellaris ARM Cortex-M3 Microcontroller; Manufacturer #1: Luminary Micro; LMI Class: Fury; Designator: U; Part Number: LM3S1918-IQC
footprint QFP50P1600X1600X160-100N
pins: 1 ADC0, 2 ADC1, 3 VDDA, 4 GNDA, 5 ADC2, 6 ADC3, 7 LDO, 8 VDD, 9 GND, 10 PD0, 11 PD1, 12 PD2/U1RX, 13 PD3/U1TX, 14 VDD25, 15 GND, 16 PG3, 17 PG2, 18 PG1, 19 PG0, 20 VDD, 21 GND, 22 PC7/CCP4, 23 PC6/CCP3, 24 PC5/C1+, 25 PC4/CCP5, 26 PA0/U0RX, 27 PA1/U0TX, 28 PA2/SSI0CLK, 29 PA3/SSI0FSS, 30 PA4/SSI0RX, 31 PA5/SSI0TX, 32 VDD, 33 GND, 34 PA6/I2C1SCL, 35 PA7/I2C1SDA, 36 PG7, 37 PG6, 38 VDD25, 39 GND, 40 PG5, 41 PG4, 42 PF7, 43 PF6/CCP1, 44 VDD, 45 GND, 46 PF5/C1O, 47 PF0, 48 OSC0, 49 OSC1, 50 WAKEN, 51 HIBN, 52 XOSC0, 53 XOSC1, 54 GND, 55 VBAT, 56 VDD, 57 GND, 58 PF4/C0O, 59 PF3, 60 PF2, 61 PF1, 62 VDD25, 63 GND, 64 RSTN, 65 CMOD0, 66 PB0/CCP0, 67 PB1/CCP2, 68 VDD, 69 GND, 70 PB2/I2C0SCL, 71 PB3/I2C0SDA, 72 PE0/SSI1CLK, 73 PE1/SSI1FSS, 74 PE2/SSI1RX, 75 PE3/SSI1TX, 76 CMOD1, 77 PC3/TDO/SWO, 78 PC2/TDI, 79 PC1/TMS/SWDIO, 80 PC0/TCK/SWCLK, 81 VDD, 82 GND, 83 PH3, 84 PH2, 85 PH1/CCP7, 86 PH0/CCP6, 87 GND, 88 VDD25, 89 PB7/TRSTN, 90 PB6/C0+, 91 PB5/C1-, 92 PB4/C0-, 93 VDD, 94 GND, 95 ADC7, 96 ADC6, 97 GNDA, 98 VDDA, 99 ADC5, 100 ADC4

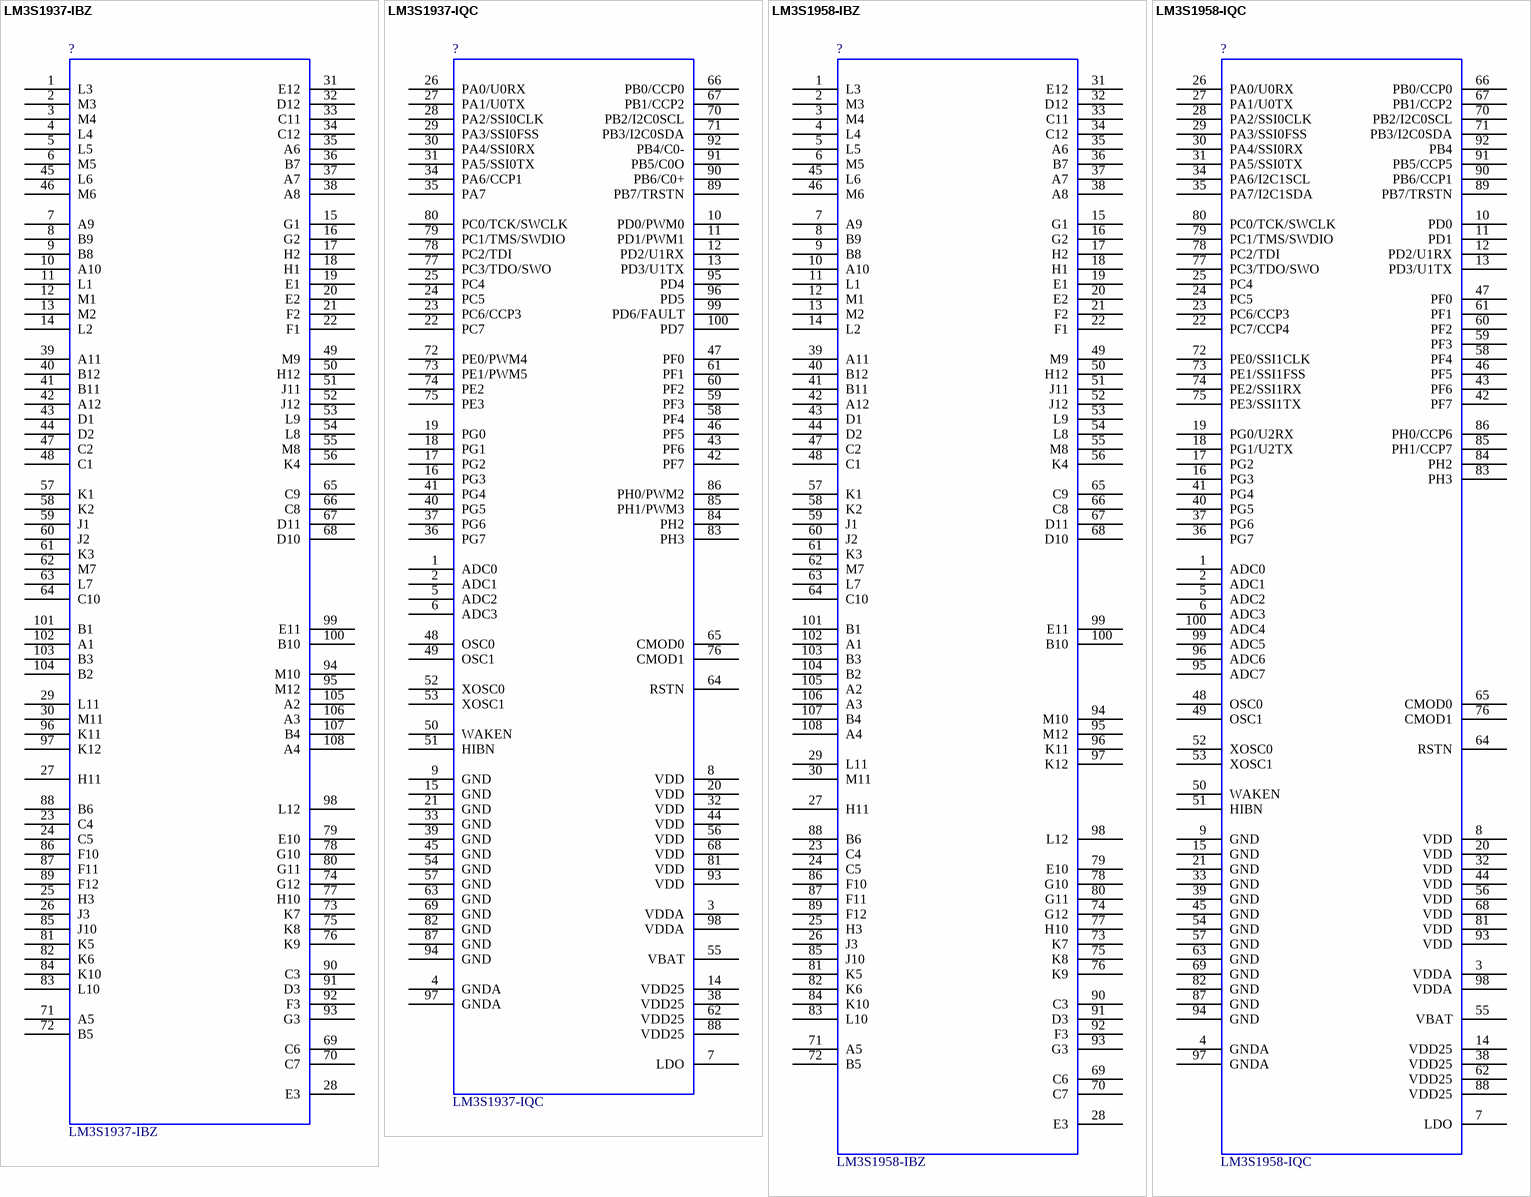
[diagram p32: symbols LM3S1937-IBZ to LM3S1958-IQC]

## LM3S1937-IBZ
designator ?  Comment_1: LM3S1937-IBZ  (hidden comment: *)
Stellaris ARM Cortex-M3 Microcontroller; Manufacturer #1: Luminary Micro; LMI Class: Fury; Designator: U; Part Number: LM3S1937-IBZ
footprint BGA108C80P12X12_1000X1000X150
pins: 1 L3, 2 M3, 3 M4, 4 L4, 5 L5, 6 M5, 7 A9, 8 B9, 9 B8, 10 A10, 11 L1, 12 M1, 13 M2, 14 L2, 15 G1, 16 G2, 17 H2, 18 H1, 19 E1, 20 E2, 21 F2, 22 F1, 23 C4, 24 C5, 25 H3, 26 J3, 27 H11, 28 E3, 29 L11, 30 M11, 31 E12, 32 D12, 33 C11, 34 C12, 35 A6, 36 B7, 37 A7, 38 A8, 39 A11, 40 B12, 41 B11, 42 A12, 43 D1, 44 D2, 45 L6, 46 M6, 47 C2, 48 C1, 49 M9, 50 H12, 51 J11, 52 J12, 53 L9, 54 L8, 55 M8, 56 K4, 57 K1, 58 K2, 59 J1, 60 J2, 61 K3, 62 M7, 63 L7, 64 C10, 65 C9, 66 C8, 67 D11, 68 D10, 69 C6, 70 C7, 71 A5, 72 B5, 73 K7, 74 G12, 75 K8, 76 K9, 77 H10, 78 G10, 79 E10, 80 G11, 81 K5, 82 K6, 83 L10, 84 K10, 85 J10, 86 F10, 87 F11, 88 B6, 89 F12, 90 C3, 91 D3, 92 F3, 93 G3, 94 M10, 95 M12, 96 K11, 97 K12, 98 L12, 99 E11, 100 B10, 101 B1, 102 A1, 103 B3, 104 B2, 105 A2, 106 A3, 107 B4, 108 A4

## LM3S1937-IQC
designator ?  Comment_1: LM3S1937-IQC  (hidden comment: *)
Stellaris ARM Cortex-M3 Microcontroller; Manufacturer #1: Luminary Micro; LMI Class: Fury; Designator: U; Part Number: LM3S1937-IQC
footprint QFP50P1600X1600X160-100N
pins: 1 ADC0, 2 ADC1, 3 VDDA, 4 GNDA, 5 ADC2, 6 ADC3, 7 LDO, 8 VDD, 9 GND, 10 PD0/PWM0, 11 PD1/PWM1, 12 PD2/U1RX, 13 PD3/U1TX, 14 VDD25, 15 GND, 16 PG3, 17 PG2, 18 PG1, 19 PG0, 20 VDD, 21 GND, 22 PC7, 23 PC6/CCP3, 24 PC5, 25 PC4, 26 PA0/U0RX, 27 PA1/U0TX, 28 PA2/SSI0CLK, 29 PA3/SSI0FSS, 30 PA4/SSI0RX, 31 PA5/SSI0TX, 32 VDD, 33 GND, 34 PA6/CCP1, 35 PA7, 36 PG7, 37 PG6, 38 VDD25, 39 GND, 40 PG5, 41 PG4, 42 PF7, 43 PF6, 44 VDD, 45 GND, 46 PF5, 47 PF0, 48 OSC0, 49 OSC1, 50 WAKEN, 51 HIBN, 52 XOSC0, 53 XOSC1, 54 GND, 55 VBAT, 56 VDD, 57 GND, 58 PF4, 59 PF3, 60 PF2, 61 PF1, 62 VDD25, 63 GND, 64 RSTN, 65 CMOD0, 66 PB0/CCP0, 67 PB1/CCP2, 68 VDD, 69 GND, 70 PB2/I2C0SCL, 71 PB3/I2C0SDA, 72 PE0/PWM4, 73 PE1/PWM5, 74 PE2, 75 PE3, 76 CMOD1, 77 PC3/TDO/SWO, 78 PC2/TDI, 79 PC1/TMS/SWDIO, 80 PC0/TCK/SWCLK, 81 VDD, 82 GND, 83 PH3, 84 PH2, 85 PH1/PWM3, 86 PH0/PWM2, 87 GND, 88 VDD25, 89 PB7/TRSTN, 90 PB6/C0+, 91 PB5/C0O, 92 PB4/C0-, 93 VDD, 94 GND, 95 PD4, 96 PD5, 97 GNDA, 98 VDDA, 99 PD6/FAULT, 100 PD7

## LM3S1958-IBZ
designator ?  Comment_1: LM3S1958-IBZ  (hidden comment: *)
Stellaris ARM Cortex-M3 Microcontroller; Manufacturer #1: Luminary Micro; LMI Class: Fury; Designator: U; Part Number: LM3S1958-IBZ
footprint BGA108C80P12X12_1000X1000X150
pins: 1 L3, 2 M3, 3 M4, 4 L4, 5 L5, 6 M5, 7 A9, 8 B9, 9 B8, 10 A10, 11 L1, 12 M1, 13 M2, 14 L2, 15 G1, 16 G2, 17 H2, 18 H1, 19 E1, 20 E2, 21 F2, 22 F1, 23 C4, 24 C5, 25 H3, 26 J3, 27 H11, 28 E3, 29 L11, 30 M11, 31 E12, 32 D12, 33 C11, 34 C12, 35 A6, 36 B7, 37 A7, 38 A8, 39 A11, 40 B12, 41 B11, 42 A12, 43 D1, 44 D2, 45 L6, 46 M6, 47 C2, 48 C1, 49 M9, 50 H12, 51 J11, 52 J12, 53 L9, 54 L8, 55 M8, 56 K4, 57 K1, 58 K2, 59 J1, 60 J2, 61 K3, 62 M7, 63 L7, 64 C10, 65 C9, 66 C8, 67 D11, 68 D10, 69 C6, 70 C7, 71 A5, 72 B5, 73 K7, 74 G12, 75 K8, 76 K9, 77 H10, 78 G10, 79 E10, 80 G11, 81 K5, 82 K6, 83 L10, 84 K10, 85 J10, 86 F10, 87 F11, 88 B6, 89 F12, 90 C3, 91 D3, 92 F3, 93 G3, 94 M10, 95 M12, 96 K11, 97 K12, 98 L12, 99 E11, 100 B10, 101 B1, 102 A1, 103 B3, 104 B2, 105 A2, 106 A3, 107 B4, 108 A4